# Altium integrated library Altera MAX 7000S.IntLib: 338 symbols (part 12 of 20)
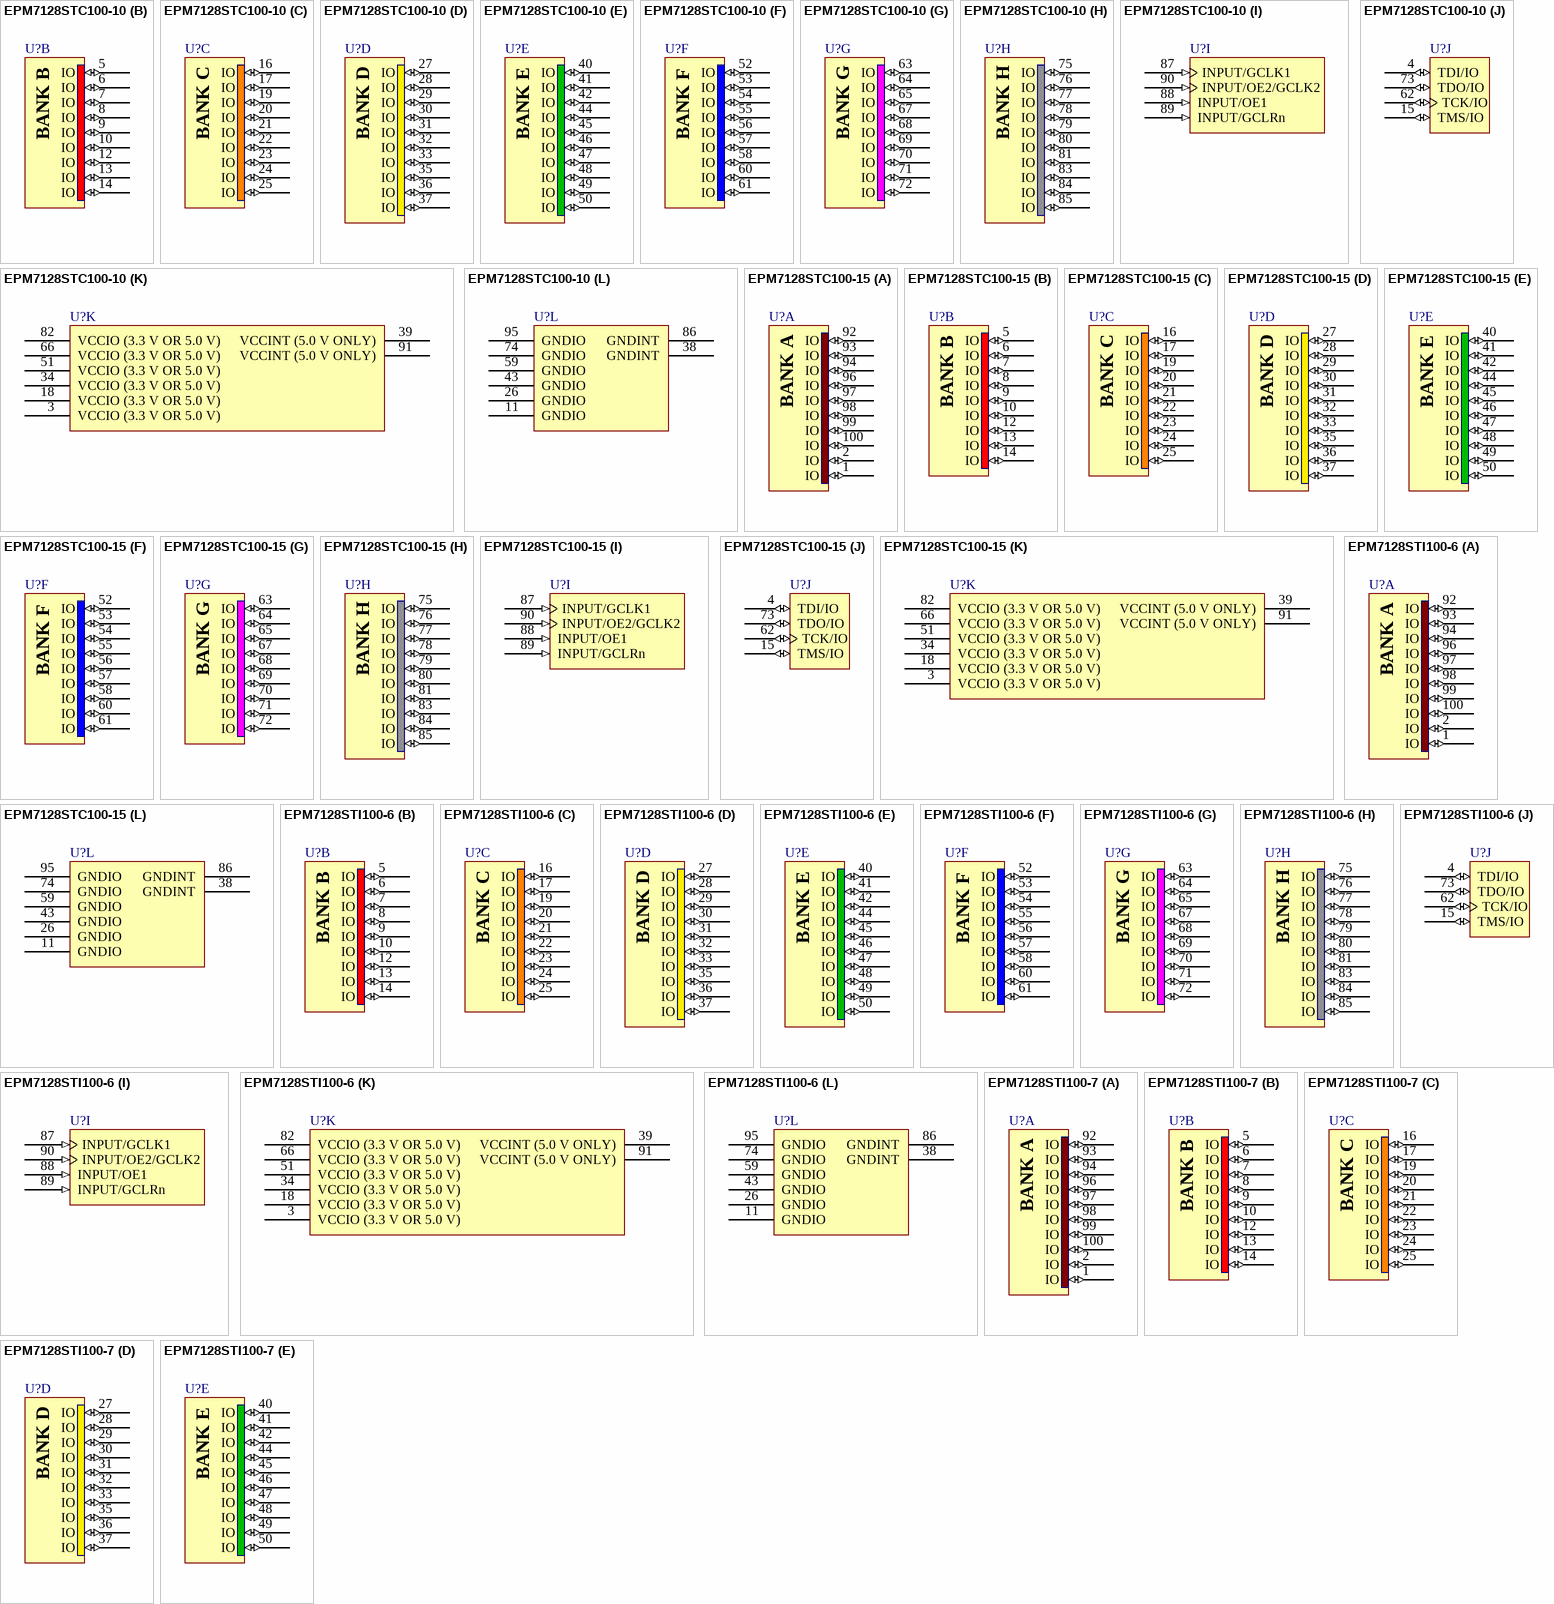
[diagram p115: symbols EPM7128STC100-10 to EPM7128STI100-7]

## EPM7128STC100-10
designator U?
MAX 7000S 5V In-System Programmable CPLD, 128 Macrocells, 100-Pin TQFP, Speed Grade 10, Commercial Grade; Published: 24-Nov-2000; LatestRevisionDate: 13-Apr-2006; LatestRevisionNote: IPC-7351 Footprint Added.; DatasheetVersion: ver6.7, Sep-2005; PackageVersion: ver15.1, May-2008; PackageReference: TQFP100; Publisher: Altium Limited; PackageDescription: 100-Pin Plastic Thin Quad Flat Pack (TQFP100) - Wire Bond; Supplier 1: Digi-Key; Supplier Part Number 1: 544-1211-ND; Code_JEDEC: MS-026-AED; ComponentLink1Description: Manufacturer Link; ComponentLink1URL: http://www.altera.com/products/devices/max7k/m7k-index.html; ComponentLink2Description: Datasheet; ComponentLink2URL: http://www.altera.com/literature/ds/m7000.pdf; ComponentLink3Description: Packaging Specification; ComponentLink3URL: http://www.altera.com/literature/ds/dspkg.pdf
footprint TQFP100_N (Thin QFP, 100-Leads, Body 14x14mm, Pitch 0.5mm, IPC Medium Density)
footprint TQFP100_L (Thin QFP, 100-Leads, Body 14x14mm, Pitch 0.5mm, IPC High Density)
footprint TQFP100_M (Thin QFP, 100-Leads, Body 14x14mm, Pitch 0.5mm, IPC Low Density)
3D model EPM7128S-TQFP100 (100-Pin Plastic Thin Quad Flat Pack (TQFP100) - Wire Bond)
signal-integrity model 7k (MAX 7000S)
part A pins: 1 IO (io), 2 IO (io), 92 IO (io), 93 IO (io), 94 IO (io), 96 IO (io), 97 IO (io), 98 IO (io), 99 IO (io), 100 IO (io)
part B pins: 5 IO (io), 6 IO (io), 7 IO (io), 8 IO (io), 9 IO (io), 10 IO (io), 12 IO (io), 13 IO (io), 14 IO (io)
part C pins: 16 IO (io), 17 IO (io), 19 IO (io), 20 IO (io), 21 IO (io), 22 IO (io), 23 IO (io), 24 IO (io), 25 IO (io)
part D pins: 27 IO (io), 28 IO (io), 29 IO (io), 30 IO (io), 31 IO (io), 32 IO (io), 33 IO (io), 35 IO (io), 36 IO (io), 37 IO (io)
part E pins: 40 IO (io), 41 IO (io), 42 IO (io), 44 IO (io), 45 IO (io), 46 IO (io), 47 IO (io), 48 IO (io), 49 IO (io), 50 IO (io)
part F pins: 52 IO (io), 53 IO (io), 54 IO (io), 55 IO (io), 56 IO (io), 57 IO (io), 58 IO (io), 60 IO (io), 61 IO (io)
part G pins: 63 IO (io), 64 IO (io), 65 IO (io), 67 IO (io), 68 IO (io), 69 IO (io), 70 IO (io), 71 IO (io), 72 IO (io)
part H pins: 75 IO (io), 76 IO (io), 77 IO (io), 78 IO (io), 79 IO (io), 80 IO (io), 81 IO (io), 83 IO (io), 84 IO (io), 85 IO (io)
part I pins: 87 INPUT/GCLK1 (in), 88 INPUT/OE1 (in), 89 INPUT/GCLRn (in), 90 INPUT/OE2/GCLK2 (in)
part J pins: 4 TDI/IO (io), 15 TMS/IO (io), 62 TCK/IO (io), 73 TDO/IO (io)
part K pins: 3 VCCIO (3.3 V OR 5.0 V) (power), 18 VCCIO (3.3 V OR 5.0 V) (power), 34 VCCIO (3.3 V OR 5.0 V) (power), 39 VCCINT (5.0 V ONLY) (power), 51 VCCIO (3.3 V OR 5.0 V) (power), 66 VCCIO (3.3 V OR 5.0 V) (power), 82 VCCIO (3.3 V OR 5.0 V) (power), 91 VCCINT (5.0 V ONLY) (power)
part L pins: 11 GNDIO (power), 26 GNDIO (power), 38 GNDINT (power), 43 GNDIO (power), 59 GNDIO (power), 74 GNDIO (power), 86 GNDINT (power), 95 GNDIO (power)
part A text: BANK A
part B text: BANK B
part C text: BANK C
part D text: BANK D
part E text: BANK E
part F text: BANK F
part G text: BANK G
part H text: BANK H

## EPM7128STC100-15
designator U?
MAX 7000S 5V In-System Programmable CPLD, 128 Macrocells, 100-Pin TQFP, Speed Grade 15, Commercial Grade; Published: 24-Nov-2000; LatestRevisionDate: 13-Apr-2006; LatestRevisionNote: IPC-7351 Footprint Added.; DatasheetVersion: ver6.7, Sep-2005; PackageVersion: ver15.1, May-2008; PackageReference: TQFP100; Publisher: Altium Limited; PackageDescription: 100-Pin Plastic Thin Quad Flat Pack (TQFP100) - Wire Bond; Supplier 1: Digi-Key; Supplier Part Number 1: 544-1212-ND; Code_JEDEC: MS-026-AED; ComponentLink1Description: Manufacturer Link; ComponentLink1URL: http://www.altera.com/products/devices/max7k/m7k-index.html; ComponentLink2Description: Datasheet; ComponentLink2URL: http://www.altera.com/literature/ds/m7000.pdf; ComponentLink3Description: Packaging Specification; ComponentLink3URL: http://www.altera.com/literature/ds/dspkg.pdf
footprint TQFP100_N (Thin QFP, 100-Leads, Body 14x14mm, Pitch 0.5mm, IPC Medium Density)
footprint TQFP100_L (Thin QFP, 100-Leads, Body 14x14mm, Pitch 0.5mm, IPC High Density)
footprint TQFP100_M (Thin QFP, 100-Leads, Body 14x14mm, Pitch 0.5mm, IPC Low Density)
3D model EPM7128S-TQFP100 (100-Pin Plastic Thin Quad Flat Pack (TQFP100) - Wire Bond)
signal-integrity model 7k (MAX 7000S)
part A pins: 1 IO (io), 2 IO (io), 92 IO (io), 93 IO (io), 94 IO (io), 96 IO (io), 97 IO (io), 98 IO (io), 99 IO (io), 100 IO (io)
part B pins: 5 IO (io), 6 IO (io), 7 IO (io), 8 IO (io), 9 IO (io), 10 IO (io), 12 IO (io), 13 IO (io), 14 IO (io)
part C pins: 16 IO (io), 17 IO (io), 19 IO (io), 20 IO (io), 21 IO (io), 22 IO (io), 23 IO (io), 24 IO (io), 25 IO (io)
part D pins: 27 IO (io), 28 IO (io), 29 IO (io), 30 IO (io), 31 IO (io), 32 IO (io), 33 IO (io), 35 IO (io), 36 IO (io), 37 IO (io)
part E pins: 40 IO (io), 41 IO (io), 42 IO (io), 44 IO (io), 45 IO (io), 46 IO (io), 47 IO (io), 48 IO (io), 49 IO (io), 50 IO (io)
part F pins: 52 IO (io), 53 IO (io), 54 IO (io), 55 IO (io), 56 IO (io), 57 IO (io), 58 IO (io), 60 IO (io), 61 IO (io)
part G pins: 63 IO (io), 64 IO (io), 65 IO (io), 67 IO (io), 68 IO (io), 69 IO (io), 70 IO (io), 71 IO (io), 72 IO (io)
part H pins: 75 IO (io), 76 IO (io), 77 IO (io), 78 IO (io), 79 IO (io), 80 IO (io), 81 IO (io), 83 IO (io), 84 IO (io), 85 IO (io)
part I pins: 87 INPUT/GCLK1 (in), 88 INPUT/OE1 (in), 89 INPUT/GCLRn (in), 90 INPUT/OE2/GCLK2 (in)
part J pins: 4 TDI/IO (io), 15 TMS/IO (io), 62 TCK/IO (io), 73 TDO/IO (io)
part K pins: 3 VCCIO (3.3 V OR 5.0 V) (power), 18 VCCIO (3.3 V OR 5.0 V) (power), 34 VCCIO (3.3 V OR 5.0 V) (power), 39 VCCINT (5.0 V ONLY) (power), 51 VCCIO (3.3 V OR 5.0 V) (power), 66 VCCIO (3.3 V OR 5.0 V) (power), 82 VCCIO (3.3 V OR 5.0 V) (power), 91 VCCINT (5.0 V ONLY) (power)
part L pins: 11 GNDIO (power), 26 GNDIO (power), 38 GNDINT (power), 43 GNDIO (power), 59 GNDIO (power), 74 GNDIO (power), 86 GNDINT (power), 95 GNDIO (power)
part A text: BANK A
part B text: BANK B
part C text: BANK C
part D text: BANK D
part E text: BANK E
part F text: BANK F
part G text: BANK G
part H text: BANK H

## EPM7128STI100-6
designator U?
MAX 7000S 5V In-System Programmable CPLD, 128 Macrocells, 100-Pin TQFP, Speed Grade 6, Industrial Grade; Published: 17-Sep-2003; LatestRevisionDate: 13-Apr-2006; LatestRevisionNote: IPC-7351 Footprint Added.; DatasheetVersion: ver6.7, Sep-2005; PackageVersion: ver15.1, May-2008; PackageReference: TQFP100; Publisher: Altium Limited; PackageDescription: 100-Pin Plastic Thin Quad Flat Pack (TQFP100) - Wire Bond; Code_JEDEC: MS-026-AED; ComponentLink1Description: Manufacturer Link; ComponentLink1URL: http://www.altera.com/products/devices/max7k/m7k-index.html; ComponentLink2Description: Datasheet; ComponentLink2URL: http://www.altera.com/literature/ds/m7000.pdf; ComponentLink3Description: Packaging Specification; ComponentLink3URL: http://www.altera.com/literature/ds/dspkg.pdf
footprint TQFP100_N (Thin QFP, 100-Leads, Body 14x14mm, Pitch 0.5mm, IPC Medium Density)
footprint TQFP100_L (Thin QFP, 100-Leads, Body 14x14mm, Pitch 0.5mm, IPC High Density)
footprint TQFP100_M (Thin QFP, 100-Leads, Body 14x14mm, Pitch 0.5mm, IPC Low Density)
3D model EPM7128S-TQFP100 (100-Pin Plastic Thin Quad Flat Pack (TQFP100) - Wire Bond)
signal-integrity model 7k (MAX 7000S)
part A pins: 1 IO (io), 2 IO (io), 92 IO (io), 93 IO (io), 94 IO (io), 96 IO (io), 97 IO (io), 98 IO (io), 99 IO (io), 100 IO (io)
part B pins: 5 IO (io), 6 IO (io), 7 IO (io), 8 IO (io), 9 IO (io), 10 IO (io), 12 IO (io), 13 IO (io), 14 IO (io)
part C pins: 16 IO (io), 17 IO (io), 19 IO (io), 20 IO (io), 21 IO (io), 22 IO (io), 23 IO (io), 24 IO (io), 25 IO (io)
part D pins: 27 IO (io), 28 IO (io), 29 IO (io), 30 IO (io), 31 IO (io), 32 IO (io), 33 IO (io), 35 IO (io), 36 IO (io), 37 IO (io)
part E pins: 40 IO (io), 41 IO (io), 42 IO (io), 44 IO (io), 45 IO (io), 46 IO (io), 47 IO (io), 48 IO (io), 49 IO (io), 50 IO (io)
part F pins: 52 IO (io), 53 IO (io), 54 IO (io), 55 IO (io), 56 IO (io), 57 IO (io), 58 IO (io), 60 IO (io), 61 IO (io)
part G pins: 63 IO (io), 64 IO (io), 65 IO (io), 67 IO (io), 68 IO (io), 69 IO (io), 70 IO (io), 71 IO (io), 72 IO (io)
part H pins: 75 IO (io), 76 IO (io), 77 IO (io), 78 IO (io), 79 IO (io), 80 IO (io), 81 IO (io), 83 IO (io), 84 IO (io), 85 IO (io)
part I pins: 87 INPUT/GCLK1 (in), 88 INPUT/OE1 (in), 89 INPUT/GCLRn (in), 90 INPUT/OE2/GCLK2 (in)
part J pins: 4 TDI/IO (io), 15 TMS/IO (io), 62 TCK/IO (io), 73 TDO/IO (io)
part K pins: 3 VCCIO (3.3 V OR 5.0 V) (power), 18 VCCIO (3.3 V OR 5.0 V) (power), 34 VCCIO (3.3 V OR 5.0 V) (power), 39 VCCINT (5.0 V ONLY) (power), 51 VCCIO (3.3 V OR 5.0 V) (power), 66 VCCIO (3.3 V OR 5.0 V) (power), 82 VCCIO (3.3 V OR 5.0 V) (power), 91 VCCINT (5.0 V ONLY) (power)
part L pins: 11 GNDIO (power), 26 GNDIO (power), 38 GNDINT (power), 43 GNDIO (power), 59 GNDIO (power), 74 GNDIO (power), 86 GNDINT (power), 95 GNDIO (power)
part A text: BANK A
part B text: BANK B
part C text: BANK C
part D text: BANK D
part E text: BANK E
part F text: BANK F
part G text: BANK G
part H text: BANK H

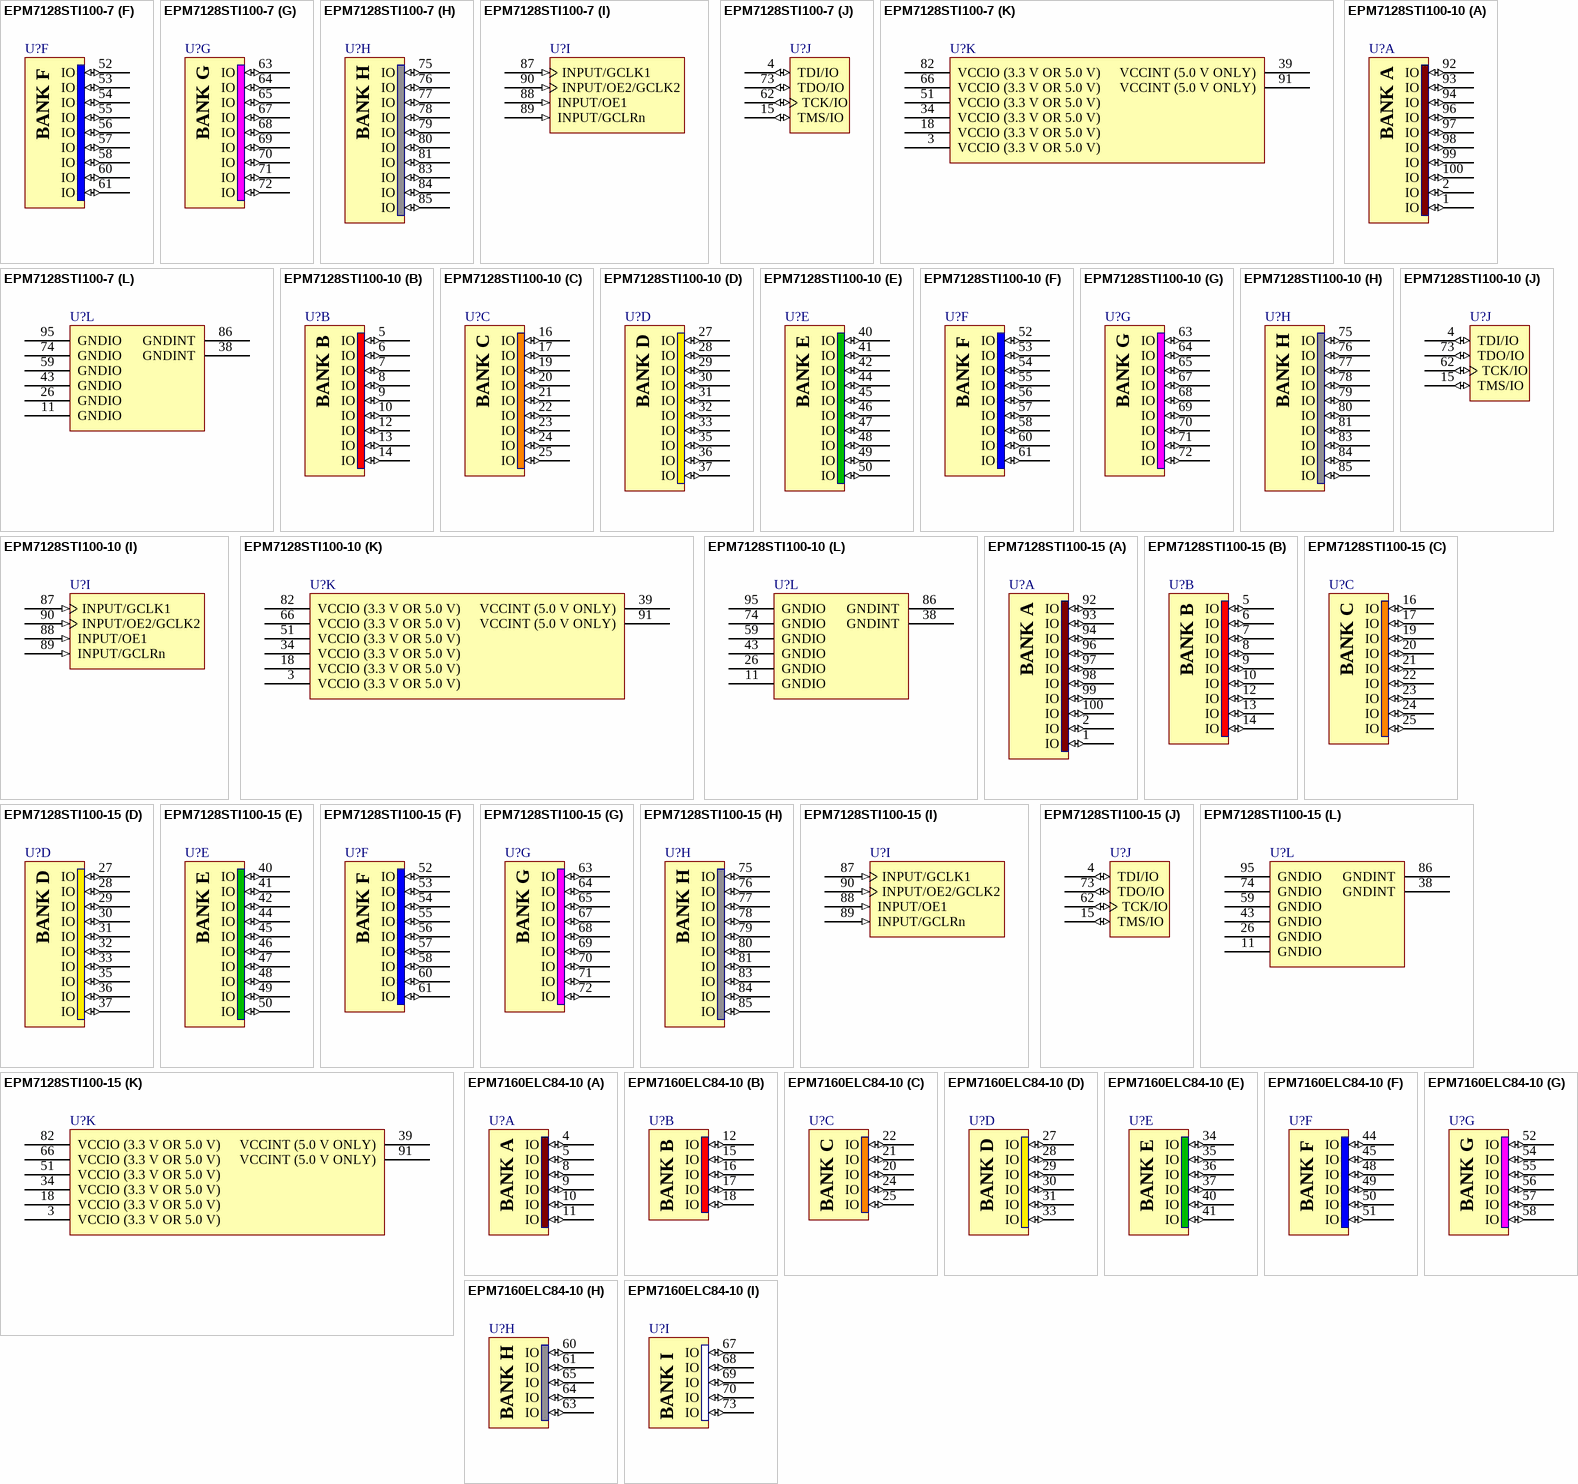
[diagram p56: symbols EPM7128STI100-7 to EPM7160ELC84-10]

## EPM7128STI100-7
designator U?
MAX 7000S 5V In-System Programmable CPLD, 128 Macrocells, 100-Pin TQFP, Speed Grade 7, Industrial Grade; Published: 17-Sep-2003; LatestRevisionDate: 13-Apr-2006; LatestRevisionNote: IPC-7351 Footprint Added.; DatasheetVersion: ver6.7, Sep-2005; PackageVersion: ver15.1, May-2008; PackageReference: TQFP100; Publisher: Altium Limited; PackageDescription: 100-Pin Plastic Thin Quad Flat Pack (TQFP100) - Wire Bond; Code_JEDEC: MS-026-AED; ComponentLink1Description: Manufacturer Link; ComponentLink1URL: http://www.altera.com/products/devices/max7k/m7k-index.html; ComponentLink2Description: Datasheet; ComponentLink2URL: http://www.altera.com/literature/ds/m7000.pdf; ComponentLink3Description: Packaging Specification; ComponentLink3URL: http://www.altera.com/literature/ds/dspkg.pdf
footprint TQFP100_N (Thin QFP, 100-Leads, Body 14x14mm, Pitch 0.5mm, IPC Medium Density)
footprint TQFP100_L (Thin QFP, 100-Leads, Body 14x14mm, Pitch 0.5mm, IPC High Density)
footprint TQFP100_M (Thin QFP, 100-Leads, Body 14x14mm, Pitch 0.5mm, IPC Low Density)
3D model EPM7128S-TQFP100 (100-Pin Plastic Thin Quad Flat Pack (TQFP100) - Wire Bond)
signal-integrity model 7k (MAX 7000S)
part A pins: 1 IO (io), 2 IO (io), 92 IO (io), 93 IO (io), 94 IO (io), 96 IO (io), 97 IO (io), 98 IO (io), 99 IO (io), 100 IO (io)
part B pins: 5 IO (io), 6 IO (io), 7 IO (io), 8 IO (io), 9 IO (io), 10 IO (io), 12 IO (io), 13 IO (io), 14 IO (io)
part C pins: 16 IO (io), 17 IO (io), 19 IO (io), 20 IO (io), 21 IO (io), 22 IO (io), 23 IO (io), 24 IO (io), 25 IO (io)
part D pins: 27 IO (io), 28 IO (io), 29 IO (io), 30 IO (io), 31 IO (io), 32 IO (io), 33 IO (io), 35 IO (io), 36 IO (io), 37 IO (io)
part E pins: 40 IO (io), 41 IO (io), 42 IO (io), 44 IO (io), 45 IO (io), 46 IO (io), 47 IO (io), 48 IO (io), 49 IO (io), 50 IO (io)
part F pins: 52 IO (io), 53 IO (io), 54 IO (io), 55 IO (io), 56 IO (io), 57 IO (io), 58 IO (io), 60 IO (io), 61 IO (io)
part G pins: 63 IO (io), 64 IO (io), 65 IO (io), 67 IO (io), 68 IO (io), 69 IO (io), 70 IO (io), 71 IO (io), 72 IO (io)
part H pins: 75 IO (io), 76 IO (io), 77 IO (io), 78 IO (io), 79 IO (io), 80 IO (io), 81 IO (io), 83 IO (io), 84 IO (io), 85 IO (io)
part I pins: 87 INPUT/GCLK1 (in), 88 INPUT/OE1 (in), 89 INPUT/GCLRn (in), 90 INPUT/OE2/GCLK2 (in)
part J pins: 4 TDI/IO (io), 15 TMS/IO (io), 62 TCK/IO (io), 73 TDO/IO (io)
part K pins: 3 VCCIO (3.3 V OR 5.0 V) (power), 18 VCCIO (3.3 V OR 5.0 V) (power), 34 VCCIO (3.3 V OR 5.0 V) (power), 39 VCCINT (5.0 V ONLY) (power), 51 VCCIO (3.3 V OR 5.0 V) (power), 66 VCCIO (3.3 V OR 5.0 V) (power), 82 VCCIO (3.3 V OR 5.0 V) (power), 91 VCCINT (5.0 V ONLY) (power)
part L pins: 11 GNDIO (power), 26 GNDIO (power), 38 GNDINT (power), 43 GNDIO (power), 59 GNDIO (power), 74 GNDIO (power), 86 GNDINT (power), 95 GNDIO (power)
part A text: BANK A
part B text: BANK B
part C text: BANK C
part D text: BANK D
part E text: BANK E
part F text: BANK F
part G text: BANK G
part H text: BANK H

## EPM7128STI100-10
designator U?
MAX 7000S 5V In-System Programmable CPLD, 128 Macrocells, 100-Pin TQFP, Speed Grade 10, Industrial Grade; Published: 24-Nov-2000; LatestRevisionDate: 13-Apr-2006; LatestRevisionNote: IPC-7351 Footprint Added.; DatasheetVersion: ver6.7, Sep-2005; PackageVersion: ver15.1, May-2008; PackageReference: TQFP100; Publisher: Altium Limited; PackageDescription: 100-Pin Plastic Thin Quad Flat Pack (TQFP100) - Wire Bond; Supplier 1: Digi-Key; Supplier Part Number 1: 544-2333-ND; Code_JEDEC: MS-026-AED; ComponentLink1Description: Manufacturer Link; ComponentLink1URL: http://www.altera.com/products/devices/max7k/m7k-index.html; ComponentLink2Description: Datasheet; ComponentLink2URL: http://www.altera.com/literature/ds/m7000.pdf; ComponentLink3Description: Packaging Specification; ComponentLink3URL: http://www.altera.com/literature/ds/dspkg.pdf
footprint TQFP100_N (Thin QFP, 100-Leads, Body 14x14mm, Pitch 0.5mm, IPC Medium Density)
footprint TQFP100_L (Thin QFP, 100-Leads, Body 14x14mm, Pitch 0.5mm, IPC High Density)
footprint TQFP100_M (Thin QFP, 100-Leads, Body 14x14mm, Pitch 0.5mm, IPC Low Density)
3D model EPM7128S-TQFP100 (100-Pin Plastic Thin Quad Flat Pack (TQFP100) - Wire Bond)
signal-integrity model 7k (MAX 7000S)
part A pins: 1 IO (io), 2 IO (io), 92 IO (io), 93 IO (io), 94 IO (io), 96 IO (io), 97 IO (io), 98 IO (io), 99 IO (io), 100 IO (io)
part B pins: 5 IO (io), 6 IO (io), 7 IO (io), 8 IO (io), 9 IO (io), 10 IO (io), 12 IO (io), 13 IO (io), 14 IO (io)
part C pins: 16 IO (io), 17 IO (io), 19 IO (io), 20 IO (io), 21 IO (io), 22 IO (io), 23 IO (io), 24 IO (io), 25 IO (io)
part D pins: 27 IO (io), 28 IO (io), 29 IO (io), 30 IO (io), 31 IO (io), 32 IO (io), 33 IO (io), 35 IO (io), 36 IO (io), 37 IO (io)
part E pins: 40 IO (io), 41 IO (io), 42 IO (io), 44 IO (io), 45 IO (io), 46 IO (io), 47 IO (io), 48 IO (io), 49 IO (io), 50 IO (io)
part F pins: 52 IO (io), 53 IO (io), 54 IO (io), 55 IO (io), 56 IO (io), 57 IO (io), 58 IO (io), 60 IO (io), 61 IO (io)
part G pins: 63 IO (io), 64 IO (io), 65 IO (io), 67 IO (io), 68 IO (io), 69 IO (io), 70 IO (io), 71 IO (io), 72 IO (io)
part H pins: 75 IO (io), 76 IO (io), 77 IO (io), 78 IO (io), 79 IO (io), 80 IO (io), 81 IO (io), 83 IO (io), 84 IO (io), 85 IO (io)
part I pins: 87 INPUT/GCLK1 (in), 88 INPUT/OE1 (in), 89 INPUT/GCLRn (in), 90 INPUT/OE2/GCLK2 (in)
part J pins: 4 TDI/IO (io), 15 TMS/IO (io), 62 TCK/IO (io), 73 TDO/IO (io)
part K pins: 3 VCCIO (3.3 V OR 5.0 V) (power), 18 VCCIO (3.3 V OR 5.0 V) (power), 34 VCCIO (3.3 V OR 5.0 V) (power), 39 VCCINT (5.0 V ONLY) (power), 51 VCCIO (3.3 V OR 5.0 V) (power), 66 VCCIO (3.3 V OR 5.0 V) (power), 82 VCCIO (3.3 V OR 5.0 V) (power), 91 VCCINT (5.0 V ONLY) (power)
part L pins: 11 GNDIO (power), 26 GNDIO (power), 38 GNDINT (power), 43 GNDIO (power), 59 GNDIO (power), 74 GNDIO (power), 86 GNDINT (power), 95 GNDIO (power)
part A text: BANK A
part B text: BANK B
part C text: BANK C
part D text: BANK D
part E text: BANK E
part F text: BANK F
part G text: BANK G
part H text: BANK H

## EPM7128STI100-15
designator U?
MAX 7000S 5V In-System Programmable CPLD, 128 Macrocells, 100-Pin TQFP, Speed Grade 15, Industrial Grade; Published: 24-Nov-2000; LatestRevisionDate: 13-Apr-2006; LatestRevisionNote: IPC-7351 Footprint Added.; DatasheetVersion: ver6.7, Sep-2005; PackageVersion: ver15.1, May-2008; PackageReference: TQFP100; Publisher: Altium Limited; PackageDescription: 100-Pin Plastic Thin Quad Flat Pack (TQFP100) - Wire Bond; Code_JEDEC: MS-026-AED; ComponentLink1Description: Manufacturer Link; ComponentLink1URL: http://www.altera.com/products/devices/max7k/m7k-index.html; ComponentLink2Description: Datasheet; ComponentLink2URL: http://www.altera.com/literature/ds/m7000.pdf; ComponentLink3Description: Packaging Specification; ComponentLink3URL: http://www.altera.com/literature/ds/dspkg.pdf
footprint TQFP100_N (Thin QFP, 100-Leads, Body 14x14mm, Pitch 0.5mm, IPC Medium Density)
footprint TQFP100_L (Thin QFP, 100-Leads, Body 14x14mm, Pitch 0.5mm, IPC High Density)
footprint TQFP100_M (Thin QFP, 100-Leads, Body 14x14mm, Pitch 0.5mm, IPC Low Density)
3D model EPM7128S-TQFP100 (100-Pin Plastic Thin Quad Flat Pack (TQFP100) - Wire Bond)
signal-integrity model 7k (MAX 7000S)
part A pins: 1 IO (io), 2 IO (io), 92 IO (io), 93 IO (io), 94 IO (io), 96 IO (io), 97 IO (io), 98 IO (io), 99 IO (io), 100 IO (io)
part B pins: 5 IO (io), 6 IO (io), 7 IO (io), 8 IO (io), 9 IO (io), 10 IO (io), 12 IO (io), 13 IO (io), 14 IO (io)
part C pins: 16 IO (io), 17 IO (io), 19 IO (io), 20 IO (io), 21 IO (io), 22 IO (io), 23 IO (io), 24 IO (io), 25 IO (io)
part D pins: 27 IO (io), 28 IO (io), 29 IO (io), 30 IO (io), 31 IO (io), 32 IO (io), 33 IO (io), 35 IO (io), 36 IO (io), 37 IO (io)
part E pins: 40 IO (io), 41 IO (io), 42 IO (io), 44 IO (io), 45 IO (io), 46 IO (io), 47 IO (io), 48 IO (io), 49 IO (io), 50 IO (io)
part F pins: 52 IO (io), 53 IO (io), 54 IO (io), 55 IO (io), 56 IO (io), 57 IO (io), 58 IO (io), 60 IO (io), 61 IO (io)
part G pins: 63 IO (io), 64 IO (io), 65 IO (io), 67 IO (io), 68 IO (io), 69 IO (io), 70 IO (io), 71 IO (io), 72 IO (io)
part H pins: 75 IO (io), 76 IO (io), 77 IO (io), 78 IO (io), 79 IO (io), 80 IO (io), 81 IO (io), 83 IO (io), 84 IO (io), 85 IO (io)
part I pins: 87 INPUT/GCLK1 (in), 88 INPUT/OE1 (in), 89 INPUT/GCLRn (in), 90 INPUT/OE2/GCLK2 (in)
part J pins: 4 TDI/IO (io), 15 TMS/IO (io), 62 TCK/IO (io), 73 TDO/IO (io)
part K pins: 3 VCCIO (3.3 V OR 5.0 V) (power), 18 VCCIO (3.3 V OR 5.0 V) (power), 34 VCCIO (3.3 V OR 5.0 V) (power), 39 VCCINT (5.0 V ONLY) (power), 51 VCCIO (3.3 V OR 5.0 V) (power), 66 VCCIO (3.3 V OR 5.0 V) (power), 82 VCCIO (3.3 V OR 5.0 V) (power), 91 VCCINT (5.0 V ONLY) (power)
part L pins: 11 GNDIO (power), 26 GNDIO (power), 38 GNDINT (power), 43 GNDIO (power), 59 GNDIO (power), 74 GNDIO (power), 86 GNDINT (power), 95 GNDIO (power)
part A text: BANK A
part B text: BANK B
part C text: BANK C
part D text: BANK D
part E text: BANK E
part F text: BANK F
part G text: BANK G
part H text: BANK H

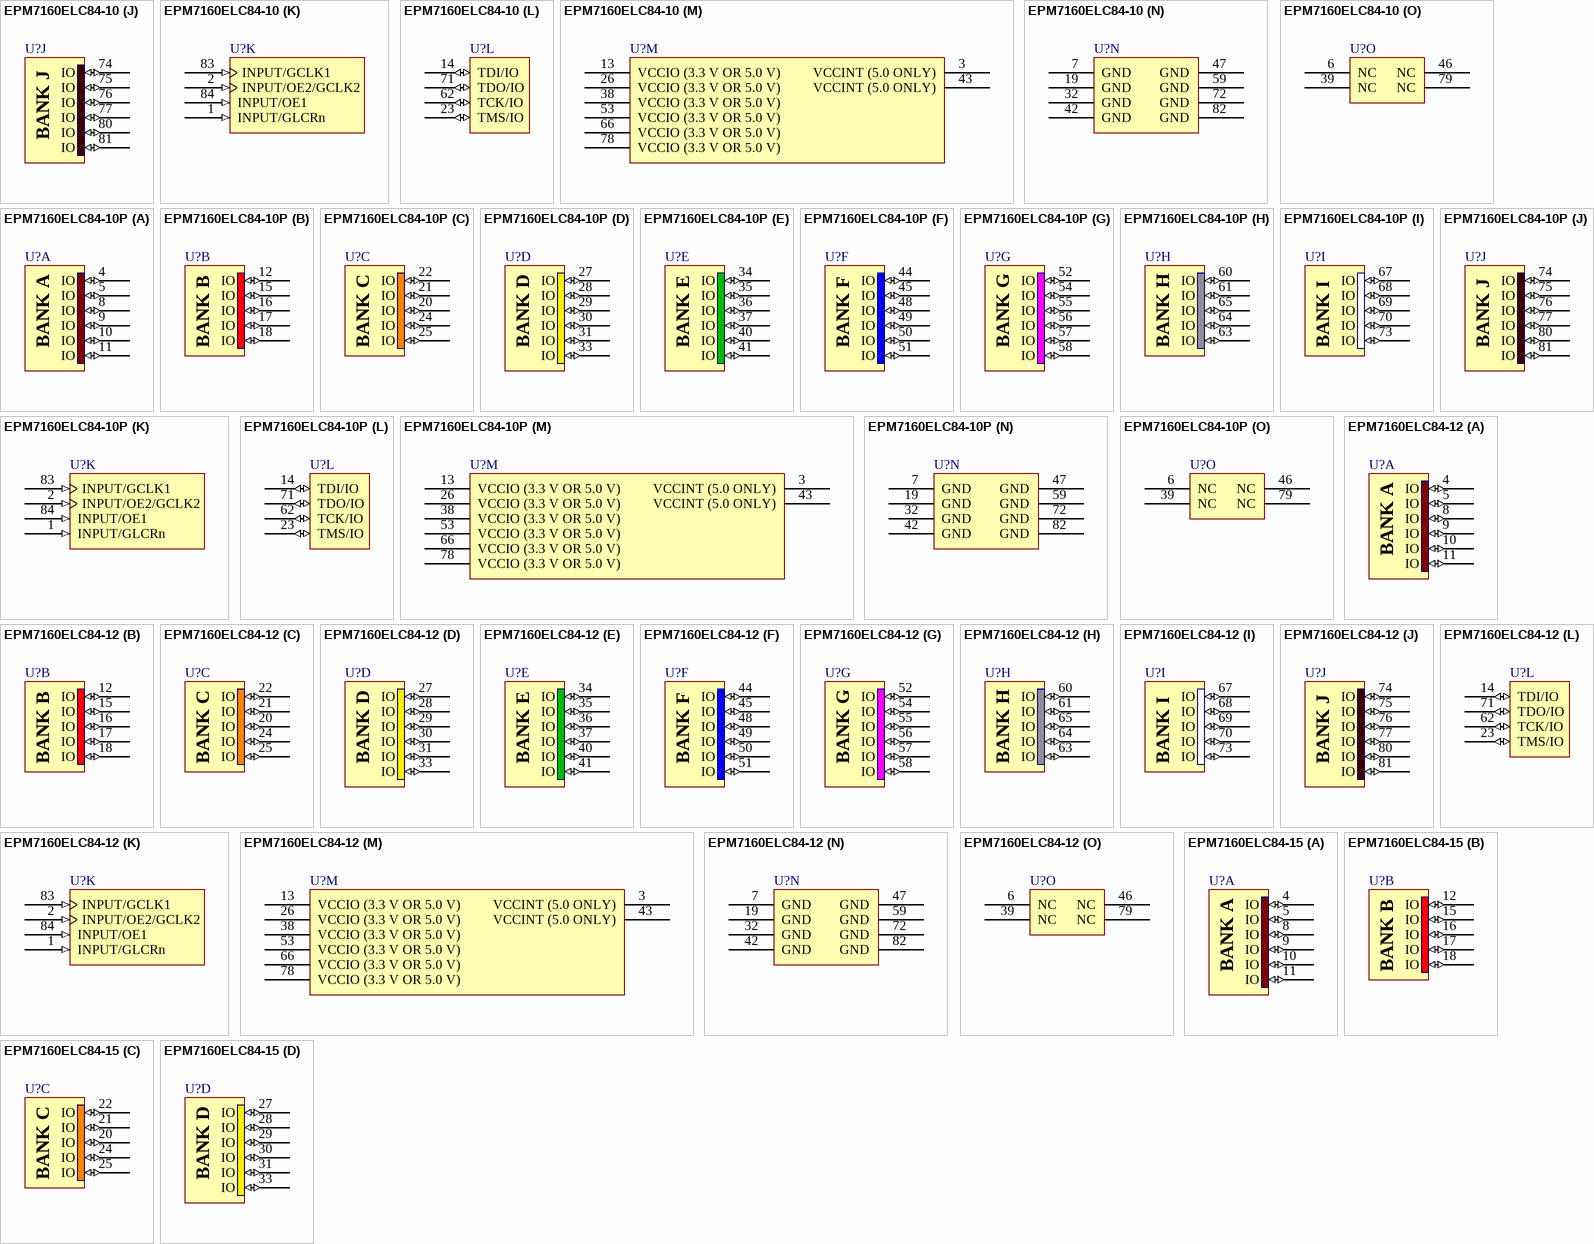
[diagram p57: symbols EPM7160ELC84-10 to EPM7160ELC84-15]

## EPM7160ELC84-10
designator U?
MAX 7000E 5V CPLD, 160 Macrocells, 84-Pin PLCC, Speed Grade 10, Commercial Grade; Published: 24-Nov-2000; LatestRevisionDate: 13-Apr-2006; LatestRevisionNote: IPC-7351 Footprint Added.; DatasheetVersion: ver6.7, Sep-2005; PackageVersion: ver14.3, Jul-2006; PackageReference: PLCC84; Publisher: Altium Limited; PackageDescription: 84-Pin Plastic J-Lead Chip Carrier (PLCC84); Supplier 1: Digi-Key; Supplier Part Number 1: 544-2335-5-ND; Code_JEDEC: MS-018-AF; Code_IPC: PLCC-84; ComponentLink1Description: Manufacturer Link; ComponentLink1URL: http://www.altera.com/products/devices/max7k/m7k-index.html; ComponentLink2Description: Datasheet; ComponentLink2URL: http://www.altera.com/literature/ds/m7000.pdf; ComponentLink3Description: Packaging Specification; ComponentLink3URL: http://www.altera.com/literature/ds/dspkg.pdf
footprint PLCC84_N (Leaded Chip Carrier, 84-Leads, Body 29.3x29.3mm, Pitch 1.27mm, IPC Medium Density)
footprint PLCC84_L (Leaded Chip Carrier, 84-Leads, Body 29.3x29.3mm, Pitch 1.27mm, IPC High Density)
footprint PLCC84_M (Leaded Chip Carrier, 84-Leads, Body 29.3x29.3mm, Pitch 1.27mm, IPC Low Density)
3D model EPM7160E-PLCC84 (84-Pin Plastic J-Lead Chip Carrier (PLCC84))
signal-integrity model 7k (MAX 7000S)
part A pins: 4 IO (io), 5 IO (io), 8 IO (io), 9 IO (io), 10 IO (io), 11 IO (io)
part B pins: 12 IO (io), 15 IO (io), 16 IO (io), 17 IO (io), 18 IO (io)
part C pins: 20 IO (io), 21 IO (io), 22 IO (io), 24 IO (io), 25 IO (io)
part D pins: 27 IO (io), 28 IO (io), 29 IO (io), 30 IO (io), 31 IO (io), 33 IO (io)
part E pins: 34 IO (io), 35 IO (io), 36 IO (io), 37 IO (io), 40 IO (io), 41 IO (io)
part F pins: 44 IO (io), 45 IO (io), 48 IO (io), 49 IO (io), 50 IO (io), 51 IO (io)
part G pins: 52 IO (io), 54 IO (io), 55 IO (io), 56 IO (io), 57 IO (io), 58 IO (io)
part H pins: 60 IO (io), 61 IO (io), 63 IO (io), 64 IO (io), 65 IO (io)
part I pins: 67 IO (io), 68 IO (io), 69 IO (io), 70 IO (io), 73 IO (io)
part J pins: 74 IO (io), 75 IO (io), 76 IO (io), 77 IO (io), 80 IO (io), 81 IO (io)
part K pins: 1 INPUT/GLCRn (in), 2 INPUT/OE2/GCLK2 (in), 83 INPUT/GCLK1 (in), 84 INPUT/OE1 (in)
part L pins: 14 TDI/IO (io), 23 TMS/IO (io), 62 TCK/IO (io), 71 TDO/IO (io)
part M pins: 3 VCCINT (5.0 ONLY) (power), 13 VCCIO (3.3 V OR 5.0 V) (power), 26 VCCIO (3.3 V OR 5.0 V) (power), 38 VCCIO (3.3 V OR 5.0 V) (power), 43 VCCINT (5.0 ONLY) (power), 53 VCCIO (3.3 V OR 5.0 V) (power), 66 VCCIO (3.3 V OR 5.0 V) (power), 78 VCCIO (3.3 V OR 5.0 V) (power)
part N pins: 7 GND (power), 19 GND (power), 32 GND (power), 42 GND (power), 47 GND (power), 59 GND (power), 72 GND (power), 82 GND (power)
part O pins: 6 NC, 39 NC, 46 NC, 79 NC
part A text: BANK A
part B text: BANK B
part C text: BANK C
part D text: BANK D
part E text: BANK E
part F text: BANK F
part G text: BANK G
part H text: BANK H
part I text: BANK I
part J text: BANK J

## EPM7160ELC84-10P
designator U?
MAX 7000E 5V CPLD, 160 Macrocells, 84-Pin PLCC, Speed Grade 10P, Commercial Grade; Published: 24-Nov-2000; LatestRevisionDate: 13-Apr-2006; LatestRevisionNote: IPC-7351 Footprint Added.; DatasheetVersion: ver6.7, Sep-2005; PackageVersion: ver14.3, Jul-2006; PackageReference: PLCC84; Publisher: Altium Limited; PackageDescription: 84-Pin Plastic J-Lead Chip Carrier (PLCC84); Code_JEDEC: MS-018-AF; Code_IPC: PLCC-84; ComponentLink1Description: Manufacturer Link; ComponentLink1URL: http://www.altera.com/products/devices/max7k/m7k-index.html; ComponentLink2Description: Datasheet; ComponentLink2URL: http://www.altera.com/literature/ds/m7000.pdf; ComponentLink3Description: Packaging Specification; ComponentLink3URL: http://www.altera.com/literature/ds/dspkg.pdf
footprint PLCC84_N (Leaded Chip Carrier, 84-Leads, Body 29.3x29.3mm, Pitch 1.27mm, IPC Medium Density)
footprint PLCC84_L (Leaded Chip Carrier, 84-Leads, Body 29.3x29.3mm, Pitch 1.27mm, IPC High Density)
footprint PLCC84_M (Leaded Chip Carrier, 84-Leads, Body 29.3x29.3mm, Pitch 1.27mm, IPC Low Density)
3D model EPM7160E-PLCC84 (84-Pin Plastic J-Lead Chip Carrier (PLCC84))
signal-integrity model 7k (MAX 7000S)
part A pins: 4 IO (io), 5 IO (io), 8 IO (io), 9 IO (io), 10 IO (io), 11 IO (io)
part B pins: 12 IO (io), 15 IO (io), 16 IO (io), 17 IO (io), 18 IO (io)
part C pins: 20 IO (io), 21 IO (io), 22 IO (io), 24 IO (io), 25 IO (io)
part D pins: 27 IO (io), 28 IO (io), 29 IO (io), 30 IO (io), 31 IO (io), 33 IO (io)
part E pins: 34 IO (io), 35 IO (io), 36 IO (io), 37 IO (io), 40 IO (io), 41 IO (io)
part F pins: 44 IO (io), 45 IO (io), 48 IO (io), 49 IO (io), 50 IO (io), 51 IO (io)
part G pins: 52 IO (io), 54 IO (io), 55 IO (io), 56 IO (io), 57 IO (io), 58 IO (io)
part H pins: 60 IO (io), 61 IO (io), 63 IO (io), 64 IO (io), 65 IO (io)
part I pins: 67 IO (io), 68 IO (io), 69 IO (io), 70 IO (io), 73 IO (io)
part J pins: 74 IO (io), 75 IO (io), 76 IO (io), 77 IO (io), 80 IO (io), 81 IO (io)
part K pins: 1 INPUT/GLCRn (in), 2 INPUT/OE2/GCLK2 (in), 83 INPUT/GCLK1 (in), 84 INPUT/OE1 (in)
part L pins: 14 TDI/IO (io), 23 TMS/IO (io), 62 TCK/IO (io), 71 TDO/IO (io)
part M pins: 3 VCCINT (5.0 ONLY) (power), 13 VCCIO (3.3 V OR 5.0 V) (power), 26 VCCIO (3.3 V OR 5.0 V) (power), 38 VCCIO (3.3 V OR 5.0 V) (power), 43 VCCINT (5.0 ONLY) (power), 53 VCCIO (3.3 V OR 5.0 V) (power), 66 VCCIO (3.3 V OR 5.0 V) (power), 78 VCCIO (3.3 V OR 5.0 V) (power)
part N pins: 7 GND (power), 19 GND (power), 32 GND (power), 42 GND (power), 47 GND (power), 59 GND (power), 72 GND (power), 82 GND (power)
part O pins: 6 NC, 39 NC, 46 NC, 79 NC
part A text: BANK A
part B text: BANK B
part C text: BANK C
part D text: BANK D
part E text: BANK E
part F text: BANK F
part G text: BANK G
part H text: BANK H
part I text: BANK I
part J text: BANK J

## EPM7160ELC84-12
designator U?
MAX 7000E 5V CPLD, 160 Macrocells, 84-Pin PLCC, Speed Grade 12, Commercial Grade; Published: 24-Nov-2000; LatestRevisionDate: 13-Apr-2006; LatestRevisionNote: IPC-7351 Footprint Added.; DatasheetVersion: ver6.7, Sep-2005; PackageVersion: ver14.3, Jul-2006; PackageReference: PLCC84; Publisher: Altium Limited; PackageDescription: 84-Pin Plastic J-Lead Chip Carrier (PLCC84); Code_JEDEC: MS-018-AF; Code_IPC: PLCC-84; ComponentLink1Description: Manufacturer Link; ComponentLink1URL: http://www.altera.com/products/devices/max7k/m7k-index.html; ComponentLink2Description: Datasheet; ComponentLink2URL: http://www.altera.com/literature/ds/m7000.pdf; ComponentLink3Description: Packaging Specification; ComponentLink3URL: http://www.altera.com/literature/ds/dspkg.pdf
footprint PLCC84_N (Leaded Chip Carrier, 84-Leads, Body 29.3x29.3mm, Pitch 1.27mm, IPC Medium Density)
footprint PLCC84_L (Leaded Chip Carrier, 84-Leads, Body 29.3x29.3mm, Pitch 1.27mm, IPC High Density)
footprint PLCC84_M (Leaded Chip Carrier, 84-Leads, Body 29.3x29.3mm, Pitch 1.27mm, IPC Low Density)
3D model EPM7160E-PLCC84 (84-Pin Plastic J-Lead Chip Carrier (PLCC84))
signal-integrity model 7k (MAX 7000S)
part A pins: 4 IO (io), 5 IO (io), 8 IO (io), 9 IO (io), 10 IO (io), 11 IO (io)
part B pins: 12 IO (io), 15 IO (io), 16 IO (io), 17 IO (io), 18 IO (io)
part C pins: 20 IO (io), 21 IO (io), 22 IO (io), 24 IO (io), 25 IO (io)
part D pins: 27 IO (io), 28 IO (io), 29 IO (io), 30 IO (io), 31 IO (io), 33 IO (io)
part E pins: 34 IO (io), 35 IO (io), 36 IO (io), 37 IO (io), 40 IO (io), 41 IO (io)
part F pins: 44 IO (io), 45 IO (io), 48 IO (io), 49 IO (io), 50 IO (io), 51 IO (io)
part G pins: 52 IO (io), 54 IO (io), 55 IO (io), 56 IO (io), 57 IO (io), 58 IO (io)
part H pins: 60 IO (io), 61 IO (io), 63 IO (io), 64 IO (io), 65 IO (io)
part I pins: 67 IO (io), 68 IO (io), 69 IO (io), 70 IO (io), 73 IO (io)
part J pins: 74 IO (io), 75 IO (io), 76 IO (io), 77 IO (io), 80 IO (io), 81 IO (io)
part K pins: 1 INPUT/GLCRn (in), 2 INPUT/OE2/GCLK2 (in), 83 INPUT/GCLK1 (in), 84 INPUT/OE1 (in)
part L pins: 14 TDI/IO (io), 23 TMS/IO (io), 62 TCK/IO (io), 71 TDO/IO (io)
part M pins: 3 VCCINT (5.0 ONLY) (power), 13 VCCIO (3.3 V OR 5.0 V) (power), 26 VCCIO (3.3 V OR 5.0 V) (power), 38 VCCIO (3.3 V OR 5.0 V) (power), 43 VCCINT (5.0 ONLY) (power), 53 VCCIO (3.3 V OR 5.0 V) (power), 66 VCCIO (3.3 V OR 5.0 V) (power), 78 VCCIO (3.3 V OR 5.0 V) (power)
part N pins: 7 GND (power), 19 GND (power), 32 GND (power), 42 GND (power), 47 GND (power), 59 GND (power), 72 GND (power), 82 GND (power)
part O pins: 6 NC, 39 NC, 46 NC, 79 NC
part A text: BANK A
part B text: BANK B
part C text: BANK C
part D text: BANK D
part E text: BANK E
part F text: BANK F
part G text: BANK G
part H text: BANK H
part I text: BANK I
part J text: BANK J

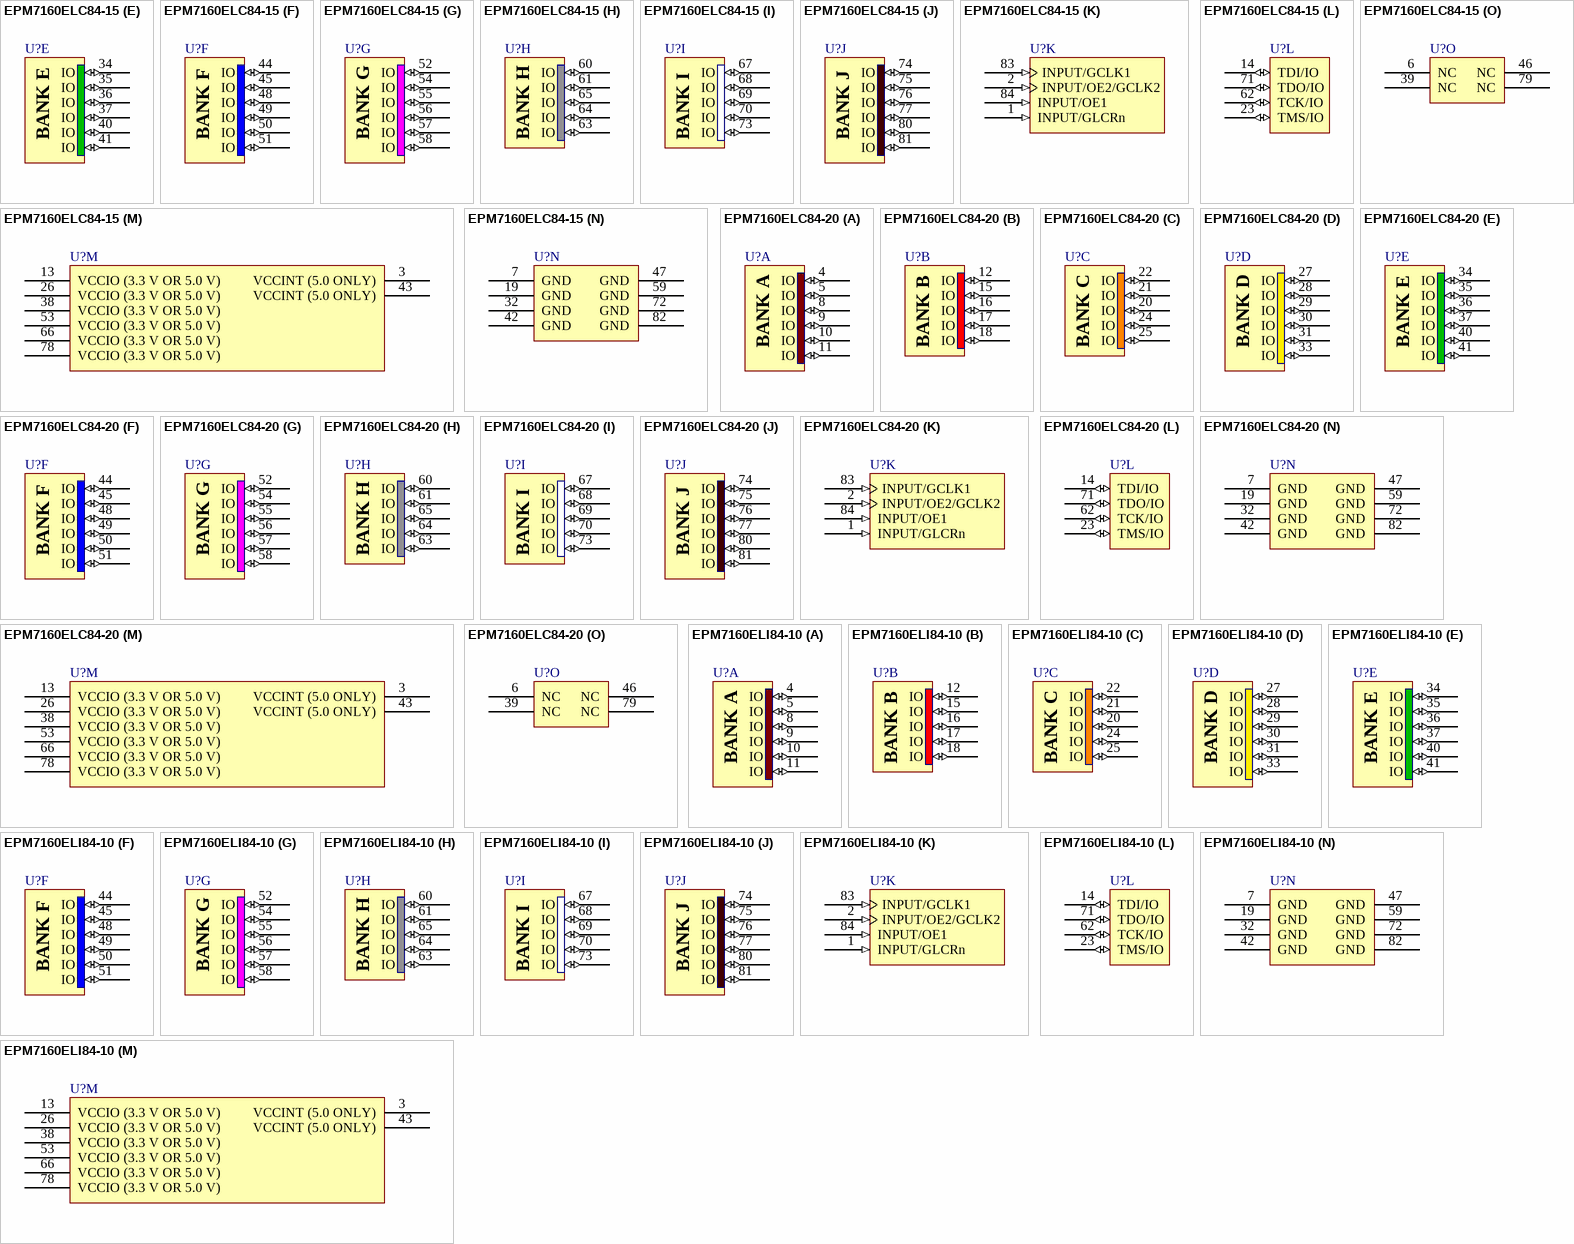
[diagram p58: symbols EPM7160ELC84-15 to EPM7160ELI84-10]

## EPM7160ELC84-15
designator U?
MAX 7000E 5V CPLD, 160 Macrocells, 84-Pin PLCC, Speed Grade 15, Commercial Grade; Published: 24-Nov-2000; LatestRevisionDate: 13-Apr-2006; LatestRevisionNote: IPC-7351 Footprint Added.; DatasheetVersion: ver6.7, Sep-2005; PackageVersion: ver14.3, Jul-2006; PackageReference: PLCC84; Publisher: Altium Limited; PackageDescription: 84-Pin Plastic J-Lead Chip Carrier (PLCC84); Supplier 1: Digi-Key; Supplier Part Number 1: 544-2336-5-ND; Code_JEDEC: MS-018-AF; Code_IPC: PLCC-84; ComponentLink1Description: Manufacturer Link; ComponentLink1URL: http://www.altera.com/products/devices/max7k/m7k-index.html; ComponentLink2Description: Datasheet; ComponentLink2URL: http://www.altera.com/literature/ds/m7000.pdf; ComponentLink3Description: Packaging Specification; ComponentLink3URL: http://www.altera.com/literature/ds/dspkg.pdf
footprint PLCC84_N (Leaded Chip Carrier, 84-Leads, Body 29.3x29.3mm, Pitch 1.27mm, IPC Medium Density)
footprint PLCC84_L (Leaded Chip Carrier, 84-Leads, Body 29.3x29.3mm, Pitch 1.27mm, IPC High Density)
footprint PLCC84_M (Leaded Chip Carrier, 84-Leads, Body 29.3x29.3mm, Pitch 1.27mm, IPC Low Density)
3D model EPM7160E-PLCC84 (84-Pin Plastic J-Lead Chip Carrier (PLCC84))
signal-integrity model 7k (MAX 7000S)
part A pins: 4 IO (io), 5 IO (io), 8 IO (io), 9 IO (io), 10 IO (io), 11 IO (io)
part B pins: 12 IO (io), 15 IO (io), 16 IO (io), 17 IO (io), 18 IO (io)
part C pins: 20 IO (io), 21 IO (io), 22 IO (io), 24 IO (io), 25 IO (io)
part D pins: 27 IO (io), 28 IO (io), 29 IO (io), 30 IO (io), 31 IO (io), 33 IO (io)
part E pins: 34 IO (io), 35 IO (io), 36 IO (io), 37 IO (io), 40 IO (io), 41 IO (io)
part F pins: 44 IO (io), 45 IO (io), 48 IO (io), 49 IO (io), 50 IO (io), 51 IO (io)
part G pins: 52 IO (io), 54 IO (io), 55 IO (io), 56 IO (io), 57 IO (io), 58 IO (io)
part H pins: 60 IO (io), 61 IO (io), 63 IO (io), 64 IO (io), 65 IO (io)
part I pins: 67 IO (io), 68 IO (io), 69 IO (io), 70 IO (io), 73 IO (io)
part J pins: 74 IO (io), 75 IO (io), 76 IO (io), 77 IO (io), 80 IO (io), 81 IO (io)
part K pins: 1 INPUT/GLCRn (in), 2 INPUT/OE2/GCLK2 (in), 83 INPUT/GCLK1 (in), 84 INPUT/OE1 (in)
part L pins: 14 TDI/IO (io), 23 TMS/IO (io), 62 TCK/IO (io), 71 TDO/IO (io)
part M pins: 3 VCCINT (5.0 ONLY) (power), 13 VCCIO (3.3 V OR 5.0 V) (power), 26 VCCIO (3.3 V OR 5.0 V) (power), 38 VCCIO (3.3 V OR 5.0 V) (power), 43 VCCINT (5.0 ONLY) (power), 53 VCCIO (3.3 V OR 5.0 V) (power), 66 VCCIO (3.3 V OR 5.0 V) (power), 78 VCCIO (3.3 V OR 5.0 V) (power)
part N pins: 7 GND (power), 19 GND (power), 32 GND (power), 42 GND (power), 47 GND (power), 59 GND (power), 72 GND (power), 82 GND (power)
part O pins: 6 NC, 39 NC, 46 NC, 79 NC
part A text: BANK A
part B text: BANK B
part C text: BANK C
part D text: BANK D
part E text: BANK E
part F text: BANK F
part G text: BANK G
part H text: BANK H
part I text: BANK I
part J text: BANK J

## EPM7160ELC84-20
designator U?
MAX 7000E 5V CPLD, 160 Macrocells, 84-Pin PLCC, Speed Grade 20, Commercial Grade; Published: 24-Nov-2000; LatestRevisionDate: 13-Apr-2006; LatestRevisionNote: IPC-7351 Footprint Added.; DatasheetVersion: ver6.7, Sep-2005; PackageVersion: ver14.3, Jul-2006; PackageReference: PLCC84; Publisher: Altium Limited; PackageDescription: 84-Pin Plastic J-Lead Chip Carrier (PLCC84); Supplier 1: Digi-Key; Supplier Part Number 1: 544-2337-5-ND; Code_JEDEC: MS-018-AF; Code_IPC: PLCC-84; ComponentLink1Description: Manufacturer Link; ComponentLink1URL: http://www.altera.com/products/devices/max7k/m7k-index.html; ComponentLink2Description: Datasheet; ComponentLink2URL: http://www.altera.com/literature/ds/m7000.pdf; ComponentLink3Description: Packaging Specification; ComponentLink3URL: http://www.altera.com/literature/ds/dspkg.pdf
footprint PLCC84_N (Leaded Chip Carrier, 84-Leads, Body 29.3x29.3mm, Pitch 1.27mm, IPC Medium Density)
footprint PLCC84_L (Leaded Chip Carrier, 84-Leads, Body 29.3x29.3mm, Pitch 1.27mm, IPC High Density)
footprint PLCC84_M (Leaded Chip Carrier, 84-Leads, Body 29.3x29.3mm, Pitch 1.27mm, IPC Low Density)
3D model EPM7160E-PLCC84 (84-Pin Plastic J-Lead Chip Carrier (PLCC84))
signal-integrity model 7k (MAX 7000S)
part A pins: 4 IO (io), 5 IO (io), 8 IO (io), 9 IO (io), 10 IO (io), 11 IO (io)
part B pins: 12 IO (io), 15 IO (io), 16 IO (io), 17 IO (io), 18 IO (io)
part C pins: 20 IO (io), 21 IO (io), 22 IO (io), 24 IO (io), 25 IO (io)
part D pins: 27 IO (io), 28 IO (io), 29 IO (io), 30 IO (io), 31 IO (io), 33 IO (io)
part E pins: 34 IO (io), 35 IO (io), 36 IO (io), 37 IO (io), 40 IO (io), 41 IO (io)
part F pins: 44 IO (io), 45 IO (io), 48 IO (io), 49 IO (io), 50 IO (io), 51 IO (io)
part G pins: 52 IO (io), 54 IO (io), 55 IO (io), 56 IO (io), 57 IO (io), 58 IO (io)
part H pins: 60 IO (io), 61 IO (io), 63 IO (io), 64 IO (io), 65 IO (io)
part I pins: 67 IO (io), 68 IO (io), 69 IO (io), 70 IO (io), 73 IO (io)
part J pins: 74 IO (io), 75 IO (io), 76 IO (io), 77 IO (io), 80 IO (io), 81 IO (io)
part K pins: 1 INPUT/GLCRn (in), 2 INPUT/OE2/GCLK2 (in), 83 INPUT/GCLK1 (in), 84 INPUT/OE1 (in)
part L pins: 14 TDI/IO (io), 23 TMS/IO (io), 62 TCK/IO (io), 71 TDO/IO (io)
part M pins: 3 VCCINT (5.0 ONLY) (power), 13 VCCIO (3.3 V OR 5.0 V) (power), 26 VCCIO (3.3 V OR 5.0 V) (power), 38 VCCIO (3.3 V OR 5.0 V) (power), 43 VCCINT (5.0 ONLY) (power), 53 VCCIO (3.3 V OR 5.0 V) (power), 66 VCCIO (3.3 V OR 5.0 V) (power), 78 VCCIO (3.3 V OR 5.0 V) (power)
part N pins: 7 GND (power), 19 GND (power), 32 GND (power), 42 GND (power), 47 GND (power), 59 GND (power), 72 GND (power), 82 GND (power)
part O pins: 6 NC, 39 NC, 46 NC, 79 NC
part A text: BANK A
part B text: BANK B
part C text: BANK C
part D text: BANK D
part E text: BANK E
part F text: BANK F
part G text: BANK G
part H text: BANK H
part I text: BANK I
part J text: BANK J

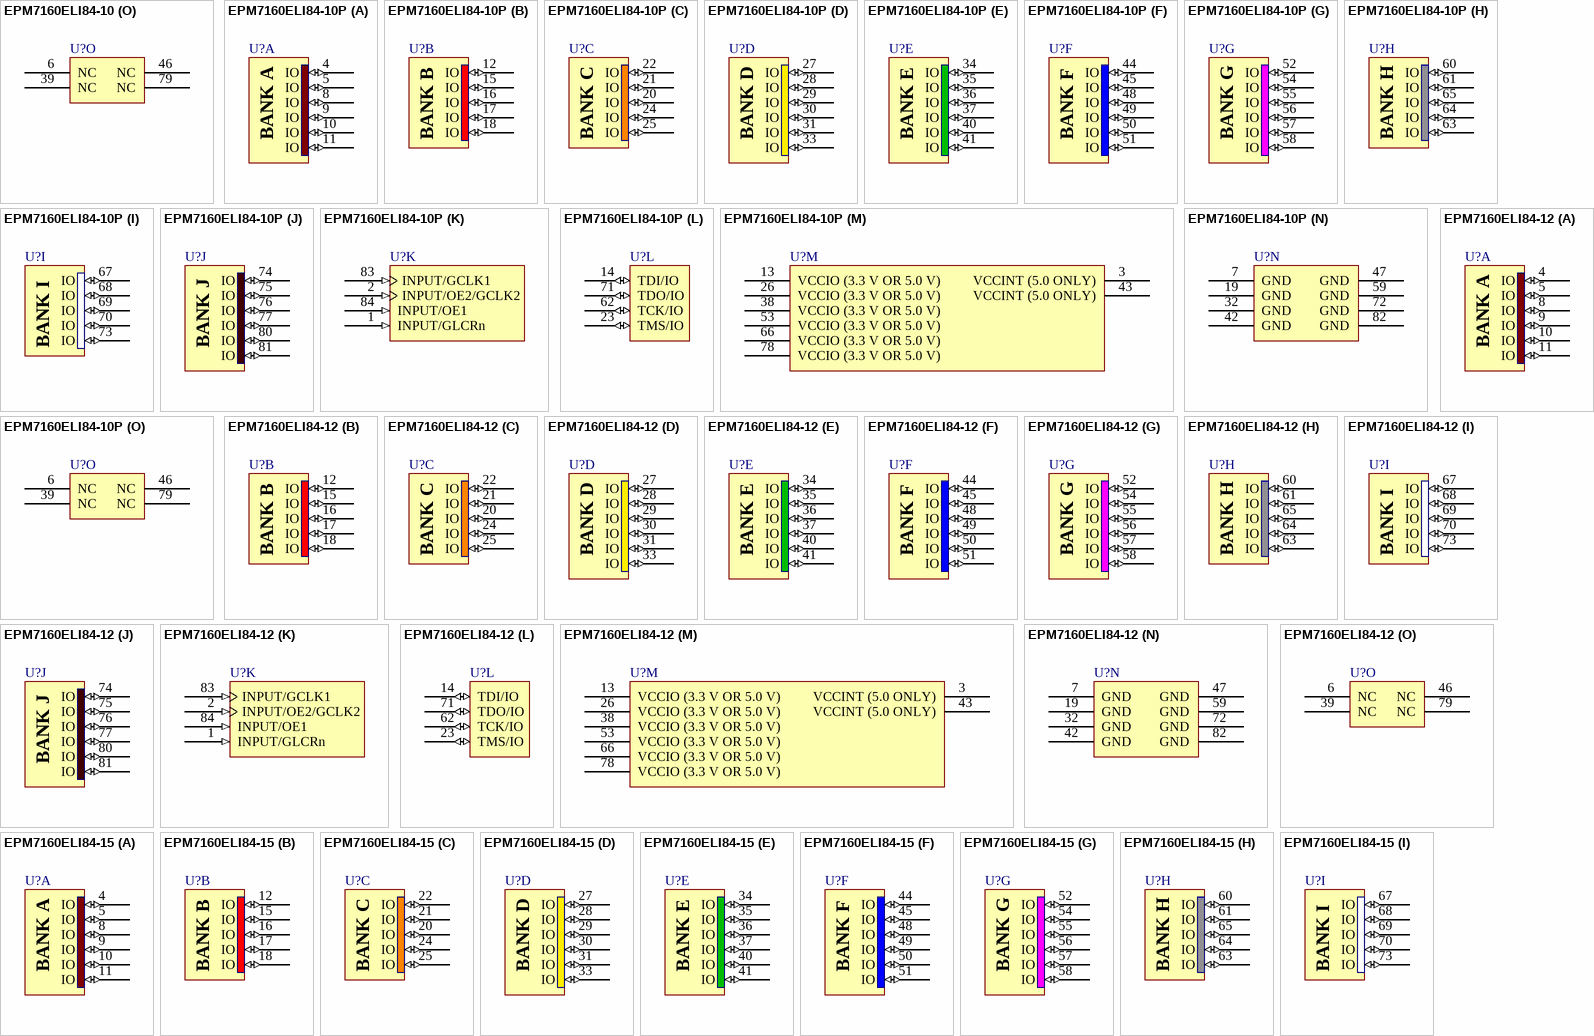
[diagram p59: symbols EPM7160ELI84-10 to EPM7160ELI84-15]

## EPM7160ELI84-10
designator U?
MAX 7000E 5V CPLD, 160 Macrocells, 84-Pin PLCC, Speed Grade 10, Industrial Grade; Published: 24-Nov-2000; LatestRevisionDate: 13-Apr-2006; LatestRevisionNote: IPC-7351 Footprint Added.; DatasheetVersion: ver6.7, Sep-2005; PackageVersion: ver14.3, Jul-2006; PackageReference: PLCC84; Publisher: Altium Limited; PackageDescription: 84-Pin Plastic J-Lead Chip Carrier (PLCC84); Code_JEDEC: MS-018-AF; Code_IPC: PLCC-84; ComponentLink1Description: Manufacturer Link; ComponentLink1URL: http://www.altera.com/products/devices/max7k/m7k-index.html; ComponentLink2Description: Datasheet; ComponentLink2URL: http://www.altera.com/literature/ds/m7000.pdf; ComponentLink3Description: Packaging Specification; ComponentLink3URL: http://www.altera.com/literature/ds/dspkg.pdf
footprint PLCC84_N (Leaded Chip Carrier, 84-Leads, Body 29.3x29.3mm, Pitch 1.27mm, IPC Medium Density)
footprint PLCC84_L (Leaded Chip Carrier, 84-Leads, Body 29.3x29.3mm, Pitch 1.27mm, IPC High Density)
footprint PLCC84_M (Leaded Chip Carrier, 84-Leads, Body 29.3x29.3mm, Pitch 1.27mm, IPC Low Density)
3D model EPM7160E-PLCC84 (84-Pin Plastic J-Lead Chip Carrier (PLCC84))
signal-integrity model 7k (MAX 7000S)
part A pins: 4 IO (io), 5 IO (io), 8 IO (io), 9 IO (io), 10 IO (io), 11 IO (io)
part B pins: 12 IO (io), 15 IO (io), 16 IO (io), 17 IO (io), 18 IO (io)
part C pins: 20 IO (io), 21 IO (io), 22 IO (io), 24 IO (io), 25 IO (io)
part D pins: 27 IO (io), 28 IO (io), 29 IO (io), 30 IO (io), 31 IO (io), 33 IO (io)
part E pins: 34 IO (io), 35 IO (io), 36 IO (io), 37 IO (io), 40 IO (io), 41 IO (io)
part F pins: 44 IO (io), 45 IO (io), 48 IO (io), 49 IO (io), 50 IO (io), 51 IO (io)
part G pins: 52 IO (io), 54 IO (io), 55 IO (io), 56 IO (io), 57 IO (io), 58 IO (io)
part H pins: 60 IO (io), 61 IO (io), 63 IO (io), 64 IO (io), 65 IO (io)
part I pins: 67 IO (io), 68 IO (io), 69 IO (io), 70 IO (io), 73 IO (io)
part J pins: 74 IO (io), 75 IO (io), 76 IO (io), 77 IO (io), 80 IO (io), 81 IO (io)
part K pins: 1 INPUT/GLCRn (in), 2 INPUT/OE2/GCLK2 (in), 83 INPUT/GCLK1 (in), 84 INPUT/OE1 (in)
part L pins: 14 TDI/IO (io), 23 TMS/IO (io), 62 TCK/IO (io), 71 TDO/IO (io)
part M pins: 3 VCCINT (5.0 ONLY) (power), 13 VCCIO (3.3 V OR 5.0 V) (power), 26 VCCIO (3.3 V OR 5.0 V) (power), 38 VCCIO (3.3 V OR 5.0 V) (power), 43 VCCINT (5.0 ONLY) (power), 53 VCCIO (3.3 V OR 5.0 V) (power), 66 VCCIO (3.3 V OR 5.0 V) (power), 78 VCCIO (3.3 V OR 5.0 V) (power)
part N pins: 7 GND (power), 19 GND (power), 32 GND (power), 42 GND (power), 47 GND (power), 59 GND (power), 72 GND (power), 82 GND (power)
part O pins: 6 NC, 39 NC, 46 NC, 79 NC
part A text: BANK A
part B text: BANK B
part C text: BANK C
part D text: BANK D
part E text: BANK E
part F text: BANK F
part G text: BANK G
part H text: BANK H
part I text: BANK I
part J text: BANK J

## EPM7160ELI84-10P
designator U?
MAX 7000E 5V CPLD, 160 Macrocells, 84-Pin PLCC, Speed Grade 10P, Industrial Grade; Published: 24-Nov-2000; LatestRevisionDate: 13-Apr-2006; LatestRevisionNote: IPC-7351 Footprint Added.; DatasheetVersion: ver6.7, Sep-2005; PackageVersion: ver14.3, Jul-2006; PackageReference: PLCC84; Publisher: Altium Limited; PackageDescription: 84-Pin Plastic J-Lead Chip Carrier (PLCC84); Code_JEDEC: MS-018-AF; Code_IPC: PLCC-84; ComponentLink1Description: Manufacturer Link; ComponentLink1URL: http://www.altera.com/products/devices/max7k/m7k-index.html; ComponentLink2Description: Datasheet; ComponentLink2URL: http://www.altera.com/literature/ds/m7000.pdf; ComponentLink3Description: Packaging Specification; ComponentLink3URL: http://www.altera.com/literature/ds/dspkg.pdf
footprint PLCC84_N (Leaded Chip Carrier, 84-Leads, Body 29.3x29.3mm, Pitch 1.27mm, IPC Medium Density)
footprint PLCC84_L (Leaded Chip Carrier, 84-Leads, Body 29.3x29.3mm, Pitch 1.27mm, IPC High Density)
footprint PLCC84_M (Leaded Chip Carrier, 84-Leads, Body 29.3x29.3mm, Pitch 1.27mm, IPC Low Density)
3D model EPM7160E-PLCC84 (84-Pin Plastic J-Lead Chip Carrier (PLCC84))
signal-integrity model 7k (MAX 7000S)
part A pins: 4 IO (io), 5 IO (io), 8 IO (io), 9 IO (io), 10 IO (io), 11 IO (io)
part B pins: 12 IO (io), 15 IO (io), 16 IO (io), 17 IO (io), 18 IO (io)
part C pins: 20 IO (io), 21 IO (io), 22 IO (io), 24 IO (io), 25 IO (io)
part D pins: 27 IO (io), 28 IO (io), 29 IO (io), 30 IO (io), 31 IO (io), 33 IO (io)
part E pins: 34 IO (io), 35 IO (io), 36 IO (io), 37 IO (io), 40 IO (io), 41 IO (io)
part F pins: 44 IO (io), 45 IO (io), 48 IO (io), 49 IO (io), 50 IO (io), 51 IO (io)
part G pins: 52 IO (io), 54 IO (io), 55 IO (io), 56 IO (io), 57 IO (io), 58 IO (io)
part H pins: 60 IO (io), 61 IO (io), 63 IO (io), 64 IO (io), 65 IO (io)
part I pins: 67 IO (io), 68 IO (io), 69 IO (io), 70 IO (io), 73 IO (io)
part J pins: 74 IO (io), 75 IO (io), 76 IO (io), 77 IO (io), 80 IO (io), 81 IO (io)
part K pins: 1 INPUT/GLCRn (in), 2 INPUT/OE2/GCLK2 (in), 83 INPUT/GCLK1 (in), 84 INPUT/OE1 (in)
part L pins: 14 TDI/IO (io), 23 TMS/IO (io), 62 TCK/IO (io), 71 TDO/IO (io)
part M pins: 3 VCCINT (5.0 ONLY) (power), 13 VCCIO (3.3 V OR 5.0 V) (power), 26 VCCIO (3.3 V OR 5.0 V) (power), 38 VCCIO (3.3 V OR 5.0 V) (power), 43 VCCINT (5.0 ONLY) (power), 53 VCCIO (3.3 V OR 5.0 V) (power), 66 VCCIO (3.3 V OR 5.0 V) (power), 78 VCCIO (3.3 V OR 5.0 V) (power)
part N pins: 7 GND (power), 19 GND (power), 32 GND (power), 42 GND (power), 47 GND (power), 59 GND (power), 72 GND (power), 82 GND (power)
part O pins: 6 NC, 39 NC, 46 NC, 79 NC
part A text: BANK A
part B text: BANK B
part C text: BANK C
part D text: BANK D
part E text: BANK E
part F text: BANK F
part G text: BANK G
part H text: BANK H
part I text: BANK I
part J text: BANK J

## EPM7160ELI84-12
designator U?
MAX 7000E 5V CPLD, 160 Macrocells, 84-Pin PLCC, Speed Grade 12, Industrial Grade; Published: 17-Sep-2003; LatestRevisionDate: 13-Apr-2006; LatestRevisionNote: IPC-7351 Footprint Added.; DatasheetVersion: ver6.7, Sep-2005; PackageVersion: ver14.3, Jul-2006; PackageReference: PLCC84; Publisher: Altium Limited; PackageDescription: 84-Pin Plastic J-Lead Chip Carrier (PLCC84); Code_JEDEC: MS-018-AF; Code_IPC: PLCC-84; ComponentLink1Description: Manufacturer Link; ComponentLink1URL: http://www.altera.com/products/devices/max7k/m7k-index.html; ComponentLink2Description: Datasheet; ComponentLink2URL: http://www.altera.com/literature/ds/m7000.pdf; ComponentLink3Description: Packaging Specification; ComponentLink3URL: http://www.altera.com/literature/ds/dspkg.pdf
footprint PLCC84_N (Leaded Chip Carrier, 84-Leads, Body 29.3x29.3mm, Pitch 1.27mm, IPC Medium Density)
footprint PLCC84_L (Leaded Chip Carrier, 84-Leads, Body 29.3x29.3mm, Pitch 1.27mm, IPC High Density)
footprint PLCC84_M (Leaded Chip Carrier, 84-Leads, Body 29.3x29.3mm, Pitch 1.27mm, IPC Low Density)
3D model EPM7160E-PLCC84 (84-Pin Plastic J-Lead Chip Carrier (PLCC84))
signal-integrity model 7k (MAX 7000S)
part A pins: 4 IO (io), 5 IO (io), 8 IO (io), 9 IO (io), 10 IO (io), 11 IO (io)
part B pins: 12 IO (io), 15 IO (io), 16 IO (io), 17 IO (io), 18 IO (io)
part C pins: 20 IO (io), 21 IO (io), 22 IO (io), 24 IO (io), 25 IO (io)
part D pins: 27 IO (io), 28 IO (io), 29 IO (io), 30 IO (io), 31 IO (io), 33 IO (io)
part E pins: 34 IO (io), 35 IO (io), 36 IO (io), 37 IO (io), 40 IO (io), 41 IO (io)
part F pins: 44 IO (io), 45 IO (io), 48 IO (io), 49 IO (io), 50 IO (io), 51 IO (io)
part G pins: 52 IO (io), 54 IO (io), 55 IO (io), 56 IO (io), 57 IO (io), 58 IO (io)
part H pins: 60 IO (io), 61 IO (io), 63 IO (io), 64 IO (io), 65 IO (io)
part I pins: 67 IO (io), 68 IO (io), 69 IO (io), 70 IO (io), 73 IO (io)
part J pins: 74 IO (io), 75 IO (io), 76 IO (io), 77 IO (io), 80 IO (io), 81 IO (io)
part K pins: 1 INPUT/GLCRn (in), 2 INPUT/OE2/GCLK2 (in), 83 INPUT/GCLK1 (in), 84 INPUT/OE1 (in)
part L pins: 14 TDI/IO (io), 23 TMS/IO (io), 62 TCK/IO (io), 71 TDO/IO (io)
part M pins: 3 VCCINT (5.0 ONLY) (power), 13 VCCIO (3.3 V OR 5.0 V) (power), 26 VCCIO (3.3 V OR 5.0 V) (power), 38 VCCIO (3.3 V OR 5.0 V) (power), 43 VCCINT (5.0 ONLY) (power), 53 VCCIO (3.3 V OR 5.0 V) (power), 66 VCCIO (3.3 V OR 5.0 V) (power), 78 VCCIO (3.3 V OR 5.0 V) (power)
part N pins: 7 GND (power), 19 GND (power), 32 GND (power), 42 GND (power), 47 GND (power), 59 GND (power), 72 GND (power), 82 GND (power)
part O pins: 6 NC, 39 NC, 46 NC, 79 NC
part A text: BANK A
part B text: BANK B
part C text: BANK C
part D text: BANK D
part E text: BANK E
part F text: BANK F
part G text: BANK G
part H text: BANK H
part I text: BANK I
part J text: BANK J

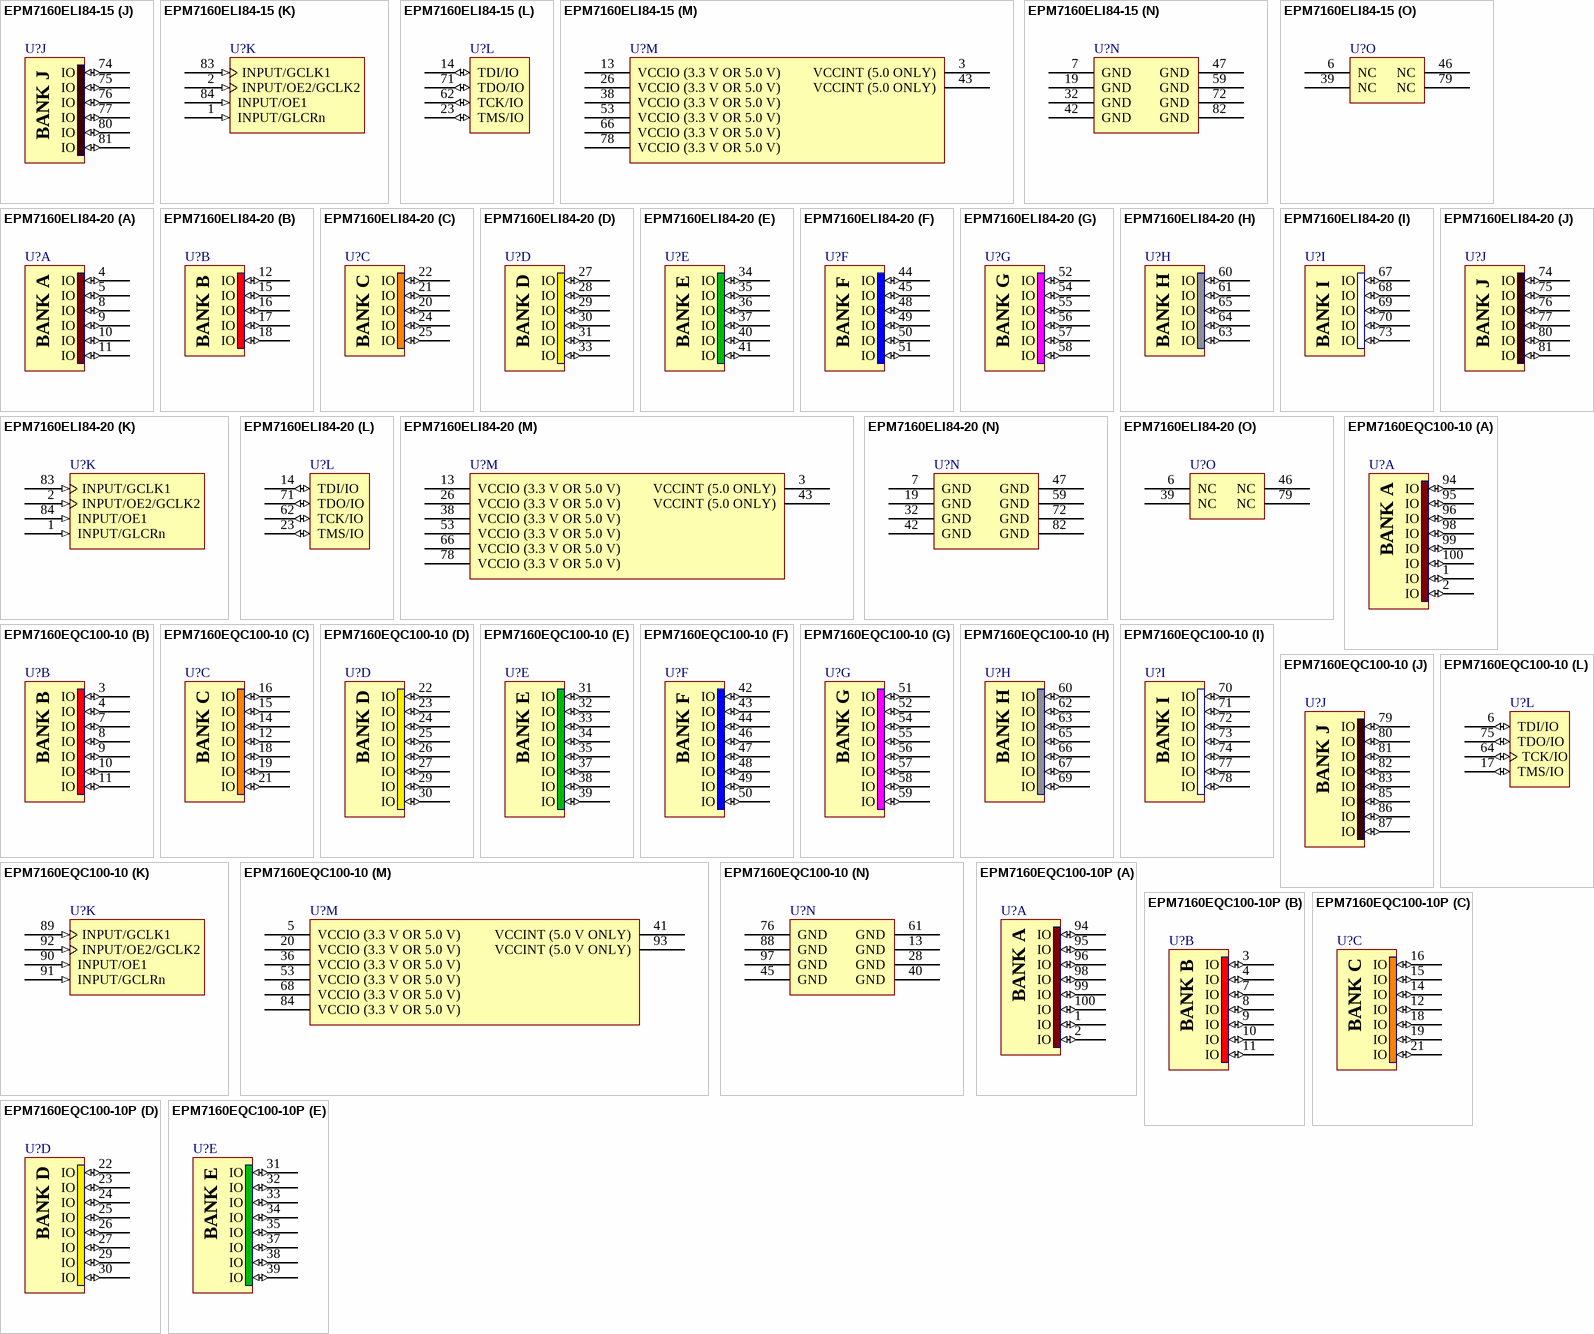
[diagram p60: symbols EPM7160ELI84-15 to EPM7160EQC100-10P]

## EPM7160ELI84-15
designator U?
MAX 7000E 5V CPLD, 160 Macrocells, 84-Pin PLCC, Speed Grade 15, Industrial Grade; Published: 24-Nov-2000; LatestRevisionDate: 13-Apr-2006; LatestRevisionNote: IPC-7351 Footprint Added.; DatasheetVersion: ver6.7, Sep-2005; PackageVersion: ver14.3, Jul-2006; PackageReference: PLCC84; Publisher: Altium Limited; PackageDescription: 84-Pin Plastic J-Lead Chip Carrier (PLCC84); Code_JEDEC: MS-018-AF; Code_IPC: PLCC-84; ComponentLink1Description: Manufacturer Link; ComponentLink1URL: http://www.altera.com/products/devices/max7k/m7k-index.html; ComponentLink2Description: Datasheet; ComponentLink2URL: http://www.altera.com/literature/ds/m7000.pdf; ComponentLink3Description: Packaging Specification; ComponentLink3URL: http://www.altera.com/literature/ds/dspkg.pdf
footprint PLCC84_N (Leaded Chip Carrier, 84-Leads, Body 29.3x29.3mm, Pitch 1.27mm, IPC Medium Density)
footprint PLCC84_L (Leaded Chip Carrier, 84-Leads, Body 29.3x29.3mm, Pitch 1.27mm, IPC High Density)
footprint PLCC84_M (Leaded Chip Carrier, 84-Leads, Body 29.3x29.3mm, Pitch 1.27mm, IPC Low Density)
3D model EPM7160E-PLCC84 (84-Pin Plastic J-Lead Chip Carrier (PLCC84))
signal-integrity model 7k (MAX 7000S)
part A pins: 4 IO (io), 5 IO (io), 8 IO (io), 9 IO (io), 10 IO (io), 11 IO (io)
part B pins: 12 IO (io), 15 IO (io), 16 IO (io), 17 IO (io), 18 IO (io)
part C pins: 20 IO (io), 21 IO (io), 22 IO (io), 24 IO (io), 25 IO (io)
part D pins: 27 IO (io), 28 IO (io), 29 IO (io), 30 IO (io), 31 IO (io), 33 IO (io)
part E pins: 34 IO (io), 35 IO (io), 36 IO (io), 37 IO (io), 40 IO (io), 41 IO (io)
part F pins: 44 IO (io), 45 IO (io), 48 IO (io), 49 IO (io), 50 IO (io), 51 IO (io)
part G pins: 52 IO (io), 54 IO (io), 55 IO (io), 56 IO (io), 57 IO (io), 58 IO (io)
part H pins: 60 IO (io), 61 IO (io), 63 IO (io), 64 IO (io), 65 IO (io)
part I pins: 67 IO (io), 68 IO (io), 69 IO (io), 70 IO (io), 73 IO (io)
part J pins: 74 IO (io), 75 IO (io), 76 IO (io), 77 IO (io), 80 IO (io), 81 IO (io)
part K pins: 1 INPUT/GLCRn (in), 2 INPUT/OE2/GCLK2 (in), 83 INPUT/GCLK1 (in), 84 INPUT/OE1 (in)
part L pins: 14 TDI/IO (io), 23 TMS/IO (io), 62 TCK/IO (io), 71 TDO/IO (io)
part M pins: 3 VCCINT (5.0 ONLY) (power), 13 VCCIO (3.3 V OR 5.0 V) (power), 26 VCCIO (3.3 V OR 5.0 V) (power), 38 VCCIO (3.3 V OR 5.0 V) (power), 43 VCCINT (5.0 ONLY) (power), 53 VCCIO (3.3 V OR 5.0 V) (power), 66 VCCIO (3.3 V OR 5.0 V) (power), 78 VCCIO (3.3 V OR 5.0 V) (power)
part N pins: 7 GND (power), 19 GND (power), 32 GND (power), 42 GND (power), 47 GND (power), 59 GND (power), 72 GND (power), 82 GND (power)
part O pins: 6 NC, 39 NC, 46 NC, 79 NC
part A text: BANK A
part B text: BANK B
part C text: BANK C
part D text: BANK D
part E text: BANK E
part F text: BANK F
part G text: BANK G
part H text: BANK H
part I text: BANK I
part J text: BANK J

## EPM7160ELI84-20
designator U?
MAX 7000E 5V CPLD, 160 Macrocells, 84-Pin PLCC, Speed Grade 20, Industrial Grade; Published: 24-Nov-2000; LatestRevisionDate: 13-Apr-2006; LatestRevisionNote: IPC-7351 Footprint Added.; DatasheetVersion: ver6.7, Sep-2005; PackageVersion: ver14.3, Jul-2006; PackageReference: PLCC84; Publisher: Altium Limited; PackageDescription: 84-Pin Plastic J-Lead Chip Carrier (PLCC84); Supplier 1: Digi-Key; Supplier Part Number 1: 544-2338-5-ND; Code_JEDEC: MS-018-AF; Code_IPC: PLCC-84; ComponentLink1Description: Manufacturer Link; ComponentLink1URL: http://www.altera.com/products/devices/max7k/m7k-index.html; ComponentLink2Description: Datasheet; ComponentLink2URL: http://www.altera.com/literature/ds/m7000.pdf; ComponentLink3Description: Packaging Specification; ComponentLink3URL: http://www.altera.com/literature/ds/dspkg.pdf
footprint PLCC84_N (Leaded Chip Carrier, 84-Leads, Body 29.3x29.3mm, Pitch 1.27mm, IPC Medium Density)
footprint PLCC84_L (Leaded Chip Carrier, 84-Leads, Body 29.3x29.3mm, Pitch 1.27mm, IPC High Density)
footprint PLCC84_M (Leaded Chip Carrier, 84-Leads, Body 29.3x29.3mm, Pitch 1.27mm, IPC Low Density)
3D model EPM7160E-PLCC84 (84-Pin Plastic J-Lead Chip Carrier (PLCC84))
signal-integrity model 7k (MAX 7000S)
part A pins: 4 IO (io), 5 IO (io), 8 IO (io), 9 IO (io), 10 IO (io), 11 IO (io)
part B pins: 12 IO (io), 15 IO (io), 16 IO (io), 17 IO (io), 18 IO (io)
part C pins: 20 IO (io), 21 IO (io), 22 IO (io), 24 IO (io), 25 IO (io)
part D pins: 27 IO (io), 28 IO (io), 29 IO (io), 30 IO (io), 31 IO (io), 33 IO (io)
part E pins: 34 IO (io), 35 IO (io), 36 IO (io), 37 IO (io), 40 IO (io), 41 IO (io)
part F pins: 44 IO (io), 45 IO (io), 48 IO (io), 49 IO (io), 50 IO (io), 51 IO (io)
part G pins: 52 IO (io), 54 IO (io), 55 IO (io), 56 IO (io), 57 IO (io), 58 IO (io)
part H pins: 60 IO (io), 61 IO (io), 63 IO (io), 64 IO (io), 65 IO (io)
part I pins: 67 IO (io), 68 IO (io), 69 IO (io), 70 IO (io), 73 IO (io)
part J pins: 74 IO (io), 75 IO (io), 76 IO (io), 77 IO (io), 80 IO (io), 81 IO (io)
part K pins: 1 INPUT/GLCRn (in), 2 INPUT/OE2/GCLK2 (in), 83 INPUT/GCLK1 (in), 84 INPUT/OE1 (in)
part L pins: 14 TDI/IO (io), 23 TMS/IO (io), 62 TCK/IO (io), 71 TDO/IO (io)
part M pins: 3 VCCINT (5.0 ONLY) (power), 13 VCCIO (3.3 V OR 5.0 V) (power), 26 VCCIO (3.3 V OR 5.0 V) (power), 38 VCCIO (3.3 V OR 5.0 V) (power), 43 VCCINT (5.0 ONLY) (power), 53 VCCIO (3.3 V OR 5.0 V) (power), 66 VCCIO (3.3 V OR 5.0 V) (power), 78 VCCIO (3.3 V OR 5.0 V) (power)
part N pins: 7 GND (power), 19 GND (power), 32 GND (power), 42 GND (power), 47 GND (power), 59 GND (power), 72 GND (power), 82 GND (power)
part O pins: 6 NC, 39 NC, 46 NC, 79 NC
part A text: BANK A
part B text: BANK B
part C text: BANK C
part D text: BANK D
part E text: BANK E
part F text: BANK F
part G text: BANK G
part H text: BANK H
part I text: BANK I
part J text: BANK J

## EPM7160EQC100-10
designator U?
MAX 7000E 5V CPLD, 160 Macrocells, 100-Pin PQFP, Speed Grade 10, Commercial Grade; Published: 24-Nov-2000; LatestRevisionDate: 13-Apr-2006; LatestRevisionNote: IPC-7351 Footprint Added.; DatasheetVersion: ver6.7, Sep-2005; PackageVersion: ver14.3, Jul-2006; PackageReference: PQFP100; Publisher: Altium Limited; PackageDescription: 100-Pin Plastic Quad Flat Pack (PFQP100) - Option 1; Code_JEDEC: MS-022-GC-1; Code_IPC: QFP65P1720X2320-100; ComponentLink1Description: Manufacturer Link; ComponentLink1URL: http://www.altera.com/products/devices/max7k/m7k-index.html; ComponentLink2Description: Datasheet; ComponentLink2URL: http://www.altera.com/literature/ds/m7000.pdf; ComponentLink3Description: Packaging Specification; ComponentLink3URL: http://www.altera.com/literature/ds/dspkg.pdf
footprint PQFP100_N (QFP, 100-Leads, Body 20x14mm, Pitch 0.65mm, IPC Medium Density)
footprint PQFP100_L (QFP, 100-Leads, Body 20x14mm, Pitch 0.65mm, IPC High Density)
footprint PQFP100_M (QFP, 100-Leads, Body 20x14mm, Pitch 0.65mm, IPC Low Density)
3D model EPM7160E-PQFP100 (100-Pin Plastic Quad Flat Pack (PFQP100) - Option 1)
signal-integrity model 7k (MAX 7000S)
part A pins: 1 IO (io), 2 IO (io), 94 IO (io), 95 IO (io), 96 IO (io), 98 IO (io), 99 IO (io), 100 IO (io)
part B pins: 3 IO (io), 4 IO (io), 7 IO (io), 8 IO (io), 9 IO (io), 10 IO (io), 11 IO (io)
part C pins: 12 IO (io), 14 IO (io), 15 IO (io), 16 IO (io), 18 IO (io), 19 IO (io), 21 IO (io)
part D pins: 22 IO (io), 23 IO (io), 24 IO (io), 25 IO (io), 26 IO (io), 27 IO (io), 29 IO (io), 30 IO (io)
part E pins: 31 IO (io), 32 IO (io), 33 IO (io), 34 IO (io), 35 IO (io), 37 IO (io), 38 IO (io), 39 IO (io)
part F pins: 42 IO (io), 43 IO (io), 44 IO (io), 46 IO (io), 47 IO (io), 48 IO (io), 49 IO (io), 50 IO (io)
part G pins: 51 IO (io), 52 IO (io), 54 IO (io), 55 IO (io), 56 IO (io), 57 IO (io), 58 IO (io), 59 IO (io)
part H pins: 60 IO (io), 62 IO (io), 63 IO (io), 65 IO (io), 66 IO (io), 67 IO (io), 69 IO (io)
part I pins: 70 IO (io), 71 IO (io), 72 IO (io), 73 IO (io), 74 IO (io), 77 IO (io), 78 IO (io)
part J pins: 79 IO (io), 80 IO (io), 81 IO (io), 82 IO (io), 83 IO (io), 85 IO (io), 86 IO (io), 87 IO (io)
part K pins: 89 INPUT/GCLK1 (in), 90 INPUT/OE1 (in), 91 INPUT/GCLRn (in), 92 INPUT/OE2/GCLK2 (in)
part L pins: 6 TDI/IO (io), 17 TMS/IO (io), 64 TCK/IO (io), 75 TDO/IO (io)
part M pins: 5 VCCIO (3.3 V OR 5.0 V) (power), 20 VCCIO (3.3 V OR 5.0 V) (power), 36 VCCIO (3.3 V OR 5.0 V) (power), 41 VCCINT (5.0 V ONLY) (power), 53 VCCIO (3.3 V OR 5.0 V) (power), 68 VCCIO (3.3 V OR 5.0 V) (power), 84 VCCIO (3.3 V OR 5.0 V) (power), 93 VCCINT (5.0 V ONLY) (power)
part N pins: 13 GND (power), 28 GND (power), 40 GND (power), 45 GND (power), 61 GND (power), 76 GND (power), 88 GND (power), 97 GND (power)
part A text: BANK A
part B text: BANK B
part C text: BANK C
part D text: BANK D
part E text: BANK E
part F text: BANK F
part G text: BANK G
part H text: BANK H
part I text: BANK I
part J text: BANK J

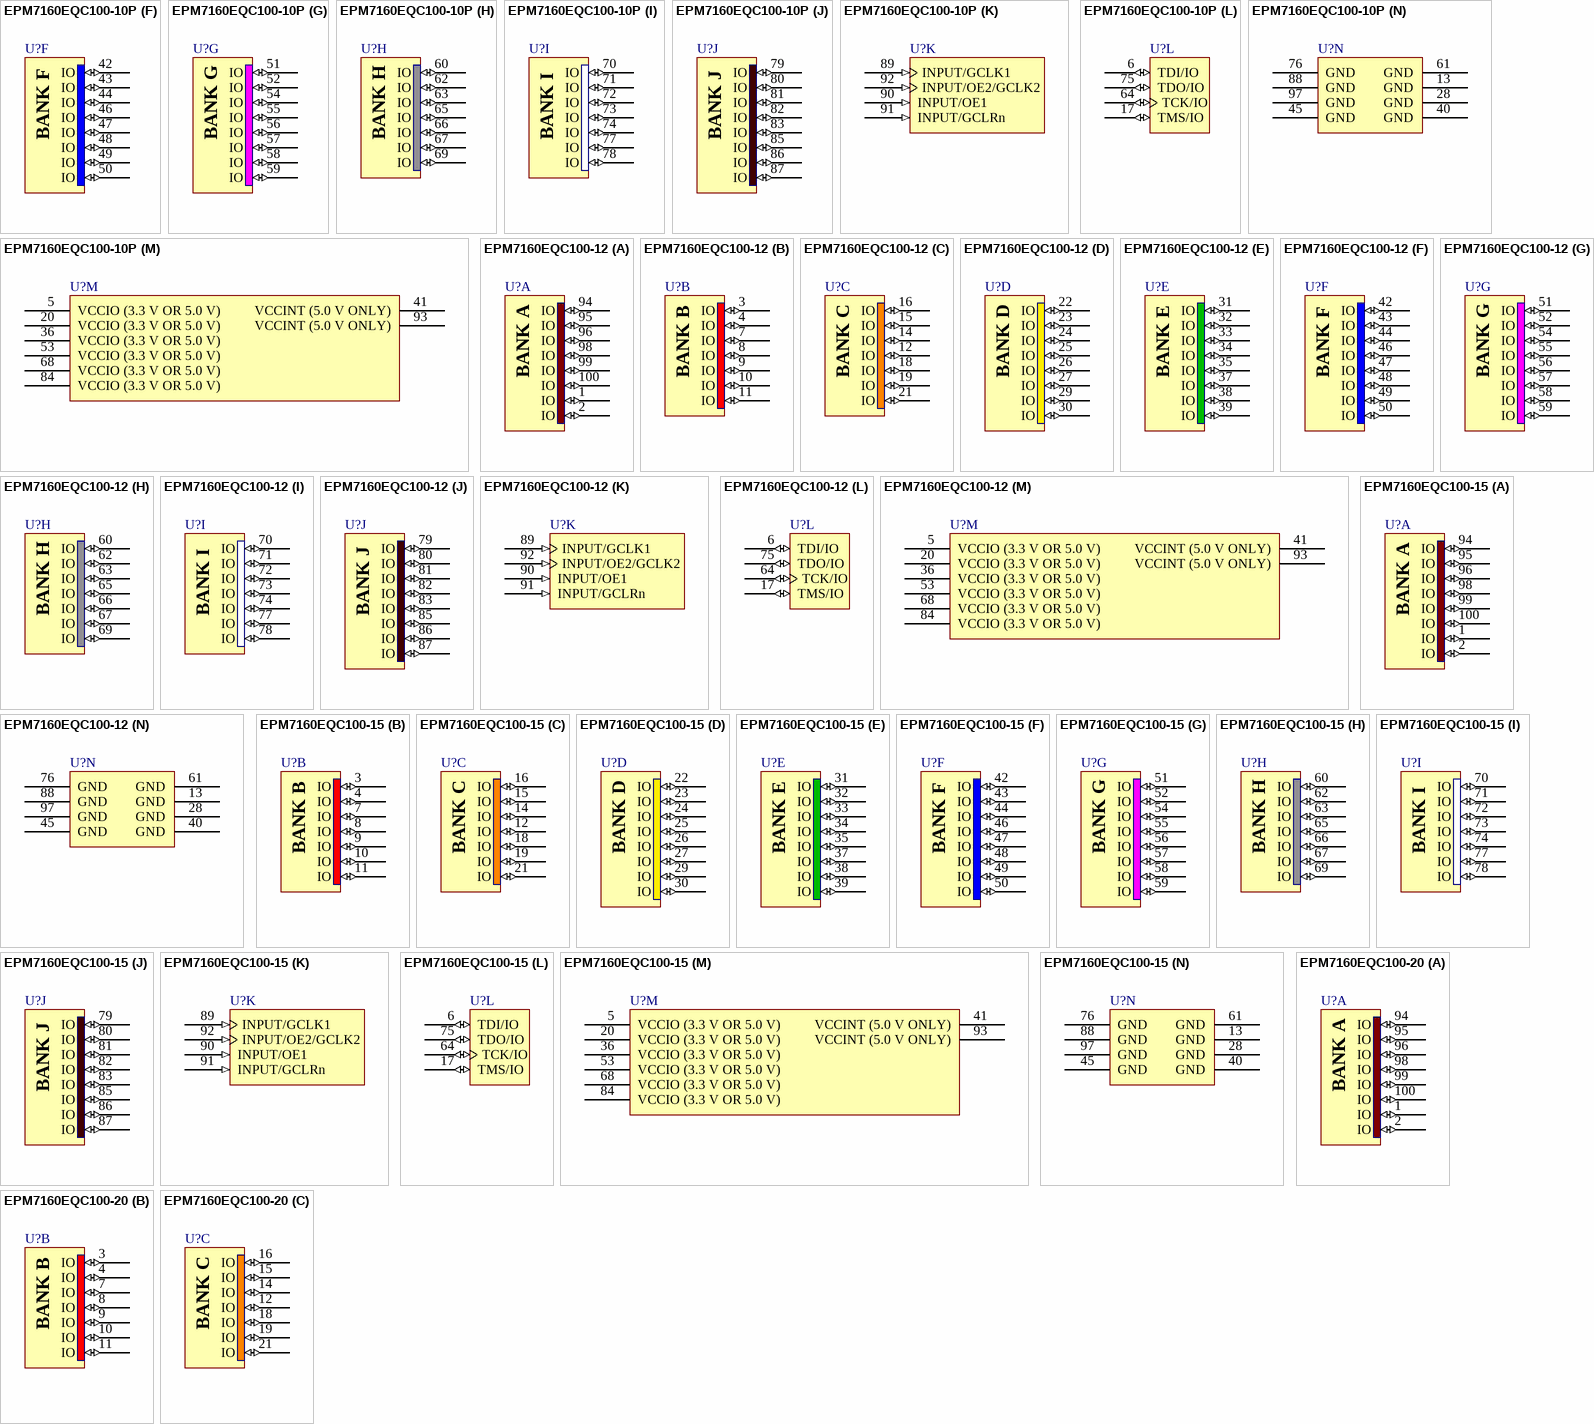
[diagram p61: symbols EPM7160EQC100-10P to EPM7160EQC100-20]

## EPM7160EQC100-10P
designator U?
MAX 7000E 5V CPLD, 160 Macrocells, 100-Pin PQFP, Speed Grade 10P, Commercial Grade; Published: 24-Nov-2000; LatestRevisionDate: 13-Apr-2006; LatestRevisionNote: IPC-7351 Footprint Added.; DatasheetVersion: ver6.7, Sep-2005; PackageVersion: ver14.3, Jul-2006; PackageReference: PQFP100; Publisher: Altium Limited; PackageDescription: 100-Pin Plastic Quad Flat Pack (PFQP100) - Option 1; Code_JEDEC: MS-022-GC-1; Code_IPC: QFP65P1720X2320-100; ComponentLink1Description: Manufacturer Link; ComponentLink1URL: http://www.altera.com/products/devices/max7k/m7k-index.html; ComponentLink2Description: Datasheet; ComponentLink2URL: http://www.altera.com/literature/ds/m7000.pdf; ComponentLink3Description: Packaging Specification; ComponentLink3URL: http://www.altera.com/literature/ds/dspkg.pdf
footprint PQFP100_N (QFP, 100-Leads, Body 20x14mm, Pitch 0.65mm, IPC Medium Density)
footprint PQFP100_L (QFP, 100-Leads, Body 20x14mm, Pitch 0.65mm, IPC High Density)
footprint PQFP100_M (QFP, 100-Leads, Body 20x14mm, Pitch 0.65mm, IPC Low Density)
3D model EPM7160E-PQFP100 (100-Pin Plastic Quad Flat Pack (PFQP100) - Option 1)
signal-integrity model 7k (MAX 7000S)
part A pins: 1 IO (io), 2 IO (io), 94 IO (io), 95 IO (io), 96 IO (io), 98 IO (io), 99 IO (io), 100 IO (io)
part B pins: 3 IO (io), 4 IO (io), 7 IO (io), 8 IO (io), 9 IO (io), 10 IO (io), 11 IO (io)
part C pins: 12 IO (io), 14 IO (io), 15 IO (io), 16 IO (io), 18 IO (io), 19 IO (io), 21 IO (io)
part D pins: 22 IO (io), 23 IO (io), 24 IO (io), 25 IO (io), 26 IO (io), 27 IO (io), 29 IO (io), 30 IO (io)
part E pins: 31 IO (io), 32 IO (io), 33 IO (io), 34 IO (io), 35 IO (io), 37 IO (io), 38 IO (io), 39 IO (io)
part F pins: 42 IO (io), 43 IO (io), 44 IO (io), 46 IO (io), 47 IO (io), 48 IO (io), 49 IO (io), 50 IO (io)
part G pins: 51 IO (io), 52 IO (io), 54 IO (io), 55 IO (io), 56 IO (io), 57 IO (io), 58 IO (io), 59 IO (io)
part H pins: 60 IO (io), 62 IO (io), 63 IO (io), 65 IO (io), 66 IO (io), 67 IO (io), 69 IO (io)
part I pins: 70 IO (io), 71 IO (io), 72 IO (io), 73 IO (io), 74 IO (io), 77 IO (io), 78 IO (io)
part J pins: 79 IO (io), 80 IO (io), 81 IO (io), 82 IO (io), 83 IO (io), 85 IO (io), 86 IO (io), 87 IO (io)
part K pins: 89 INPUT/GCLK1 (in), 90 INPUT/OE1 (in), 91 INPUT/GCLRn (in), 92 INPUT/OE2/GCLK2 (in)
part L pins: 6 TDI/IO (io), 17 TMS/IO (io), 64 TCK/IO (io), 75 TDO/IO (io)
part M pins: 5 VCCIO (3.3 V OR 5.0 V) (power), 20 VCCIO (3.3 V OR 5.0 V) (power), 36 VCCIO (3.3 V OR 5.0 V) (power), 41 VCCINT (5.0 V ONLY) (power), 53 VCCIO (3.3 V OR 5.0 V) (power), 68 VCCIO (3.3 V OR 5.0 V) (power), 84 VCCIO (3.3 V OR 5.0 V) (power), 93 VCCINT (5.0 V ONLY) (power)
part N pins: 13 GND (power), 28 GND (power), 40 GND (power), 45 GND (power), 61 GND (power), 76 GND (power), 88 GND (power), 97 GND (power)
part A text: BANK A
part B text: BANK B
part C text: BANK C
part D text: BANK D
part E text: BANK E
part F text: BANK F
part G text: BANK G
part H text: BANK H
part I text: BANK I
part J text: BANK J